# Altium schematic symbol library Analog_Switch.SchLib: 135 symbols (part 1 of 2)
Pins are listed as number, name and electrical type; pins without a type are passive.

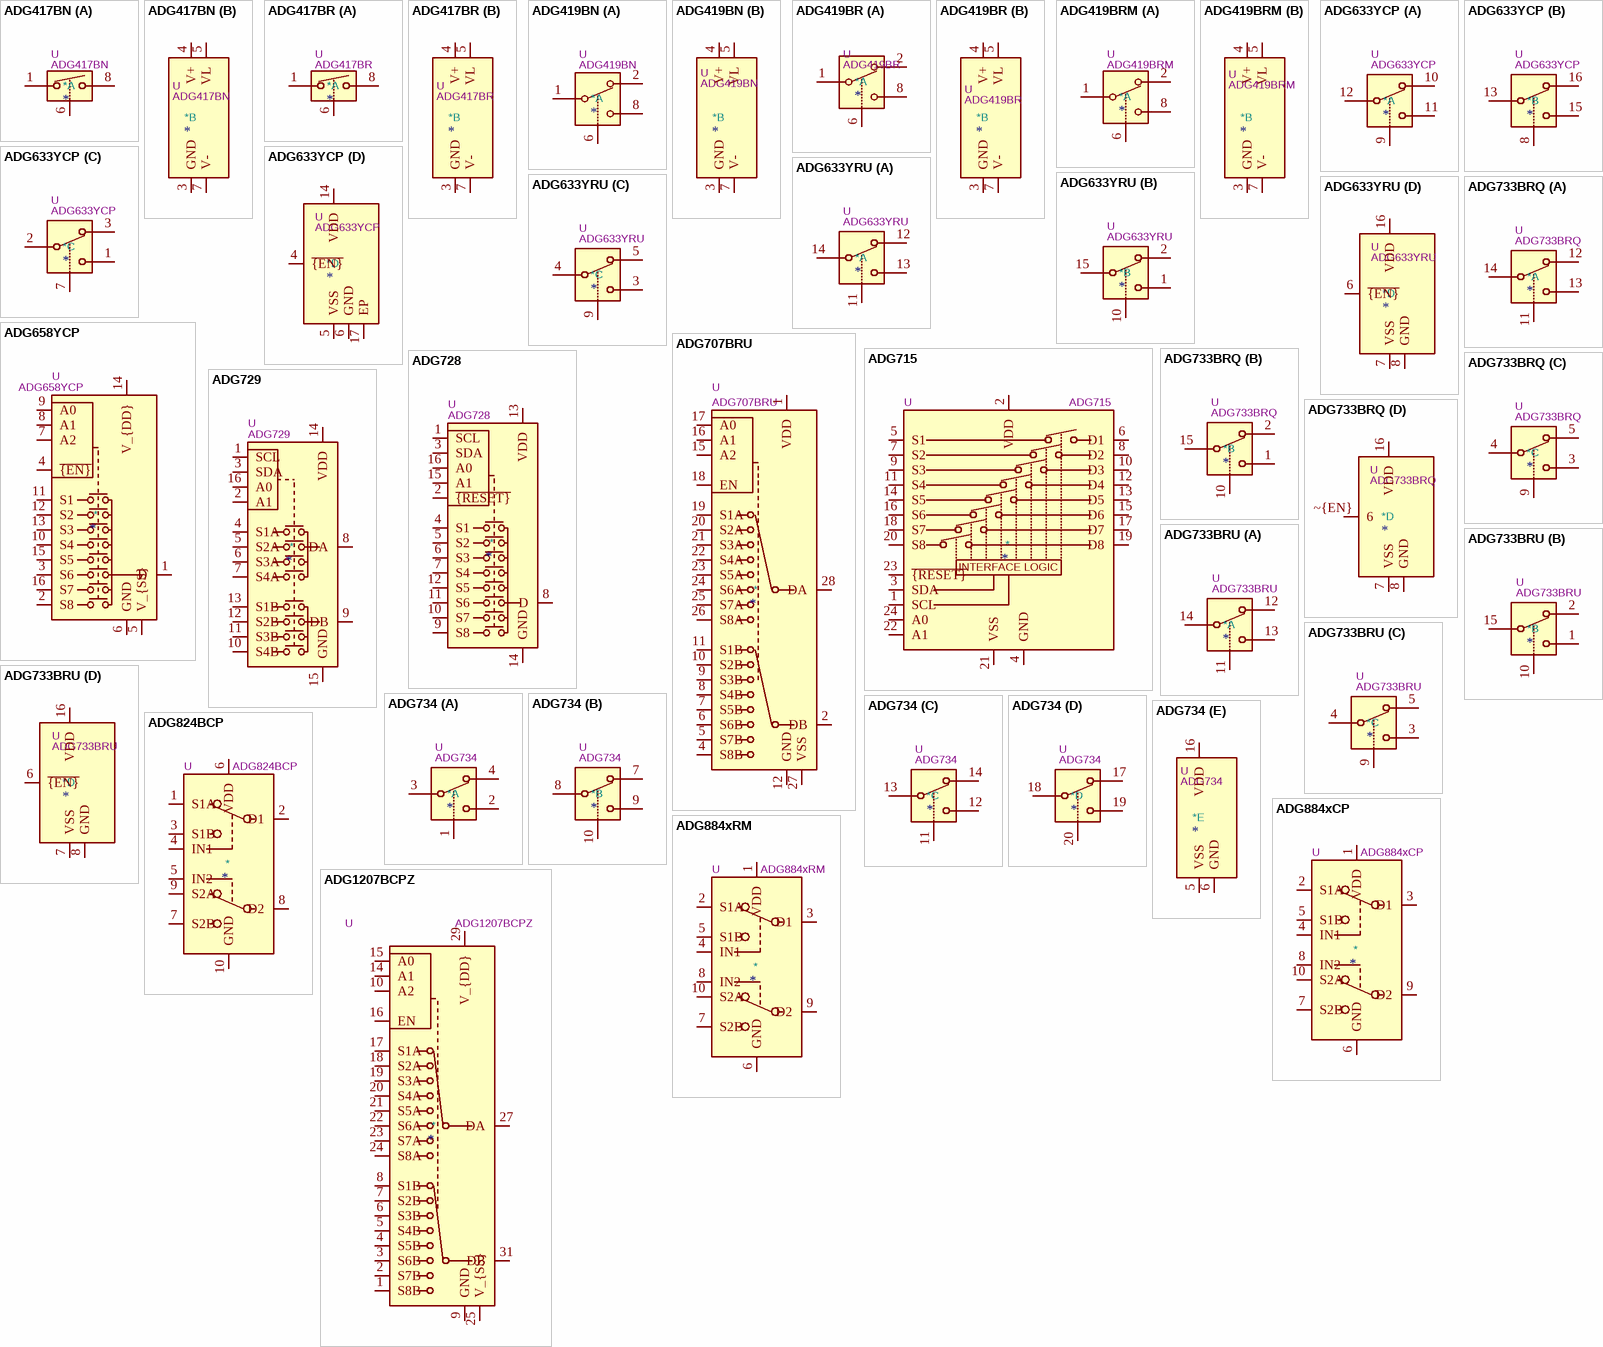
[diagram p0: symbols ADG417BN to ADG1207BCPZ]

## ADG417BN
designator *  value ADG417BN  Reference: U
ki_keywords: CMOS Analog Switch; ki_description: Single SPST Monolithic LC²MOS Analog Switch, normally OFF, 25Ohm Ron, DIP-8; ki_fp_filters: DIP*W7.62mm*; Footprint: Package_DIP:DIP-8_W7.62mm; Datasheet: https://www.analog.com/media/en/technical-documentation/data-sheets/ADG417.pdf
part A pins: 1, 6, 8
part B pins: 2 NC hidden, 3 GND, 4 V+, 5 VL, 7 V-

## ADG417BR
designator *  value ADG417BR  Reference: U
ki_keywords: CMOS Analog Switch; ki_description: Single SPST Monolithic LC²MOS Analog Switch, normally OFF, 25Ohm Ron, SOIC-8; ki_fp_filters: SOIC*3.9x4.9mm*P1.27mm*; Footprint: Package_SO:SOIC-8_3.9x4.9mm_P1.27mm; Datasheet: https://www.analog.com/media/en/technical-documentation/data-sheets/ADG417.pdf
part A pins: 1, 6, 8
part B pins: 2 NC hidden, 3 GND, 4 V+, 5 VL, 7 V-

## ADG419BN
designator *  value ADG419BN  Reference: U
ki_keywords: CMOS Analog Switch; ki_description: Single SPDT Monolithic LC²MOS Analog Switch, 25Ohm Ron, DIP-8; ki_fp_filters: DIP*W7.62mm*; Footprint: Package_DIP:DIP-8_W7.62mm; Datasheet: https://www.analog.com/media/en/technical-documentation/data-sheets/ADG419.pdf
part A pins: 1, 2, 6, 8
part B pins: 3 GND, 4 V+, 5 VL, 7 V-

## ADG419BR
designator *  value ADG419BR  Reference: U
ki_keywords: CMOS Analog Switch; ki_description: Single SPDT Monolithic LC²MOS Analog Switch, 25Ohm Ron, SOIC-8; ki_fp_filters: SOIC*3.9x4.9mm*P1.27mm*; Footprint: Package_SO:SOIC-8_3.9x4.9mm_P1.27mm; Datasheet: https://www.analog.com/media/en/technical-documentation/data-sheets/ADG419.pdf
part A pins: 1, 2, 6, 8
part B pins: 3 GND, 4 V+, 5 VL, 7 V-

## ADG419BRM
designator *  value ADG419BRM  Reference: U
ki_keywords: CMOS Analog Switch; ki_description: Single SPDT Monolithic LC²MOS Analog Switch, 25Ohm Ron, MSOP-8; ki_fp_filters: MSOP*3x3mm*P0.65mm*; Footprint: Package_SO:MSOP-8_3x3mm_P0.65mm; Datasheet: https://www.analog.com/media/en/technical-documentation/data-sheets/ADG419.pdf
part A pins: 1, 2, 6, 8
part B pins: 3 GND, 4 V+, 5 VL, 7 V-

## ADG633YCP
designator *  value ADG633YCP  Reference: U
ki_keywords: CMOS Analog Switch; ki_description: Triple SPDT CMOS Analog Switch, 52Ohm Ron, LFCSP-16; ki_fp_filters: LFCSP*1EP*4x4mm*P0.65mm*; Footprint: Package_CSP:LFCSP-16-1EP_4x4mm_P0.65mm_EP2.1x2.1mm; Datasheet: https://www.analog.com/media/en/technical-documentation/data-sheets/adg633.pdf
part A pins: 9, 10, 11, 12
part B pins: 8, 13, 15, 16
part C pins: 1, 2, 3, 7
part D pins: 4 ~{{EN}}, 5 VSS, 6 GND, 14 VDD, 17 EP

## ADG633YRU
designator *  value ADG633YRU  Reference: U
ki_keywords: CMOS Analog Switch; ki_description: Triple SPDT CMOS Analog Switch, 52Ohm Ron, TSSOP-16; ki_fp_filters: TSSOP*4.4x5mm*P0.65mm*; Footprint: Package_SO:TSSOP-16_4.4x5mm_P0.65mm; Datasheet: https://www.analog.com/media/en/technical-documentation/data-sheets/ADG633.pdf
part A pins: 11, 12, 13, 14
part B pins: 1, 2, 10, 15
part C pins: 3, 4, 5, 9
part D pins: 6 ~{{EN}}, 7 VSS, 8 GND, 16 VDD

## ADG658YCP
designator *  value ADG658YCP  Reference: U
ki_keywords: analog switch multiplexer SP8T; ki_description: 8-channel iCMOS analog multiplexer, 45 Ohm Ron, 210 MHz, LFCSP-16; ki_fp_filters: *LFCSP*1EP*4x4mm*P0.65mm*; Footprint: Package_CSP:Analog_LFCSP-16-1EP_4x4mm_P0.65mm_EP2.1x2.1mm; Datasheet: https://www.analog.com/media/en/technical-documentation/data-sheets/ADG658_659.pdf
pins: 1 D, 2 S8, 3 S6, 4 ~{{EN}}, 5 V_{SS}, 6 GND, 7 A2, 8 A1, 9 A0, 10 S4, 11 S1, 12 S2, 13 S3, 14 V_{DD}, 15 S5, 16 S7, 17 EPAD hidden

## ADG707BRU
designator *  value ADG707BRU  Reference: U
ki_keywords: analog switch selector differencial multiplexer; ki_description: Differential 8-to-1 Multiplexer, 2.5 Ohm Ron, 36Mhz, TSSOP-28; ki_fp_filters: TSSOP*4.4x9.7mm*P0.65mm*; Footprint: Package_SO:TSSOP-28_4.4x9.7mm_P0.65mm; Datasheet: https://www.analog.com/media/en/technical-documentation/data-sheets/ADG706_707.pdf
pins: 1 VDD, 2 DB, 3 NC hidden, 4 S8B, 5 S7B, 6 S6B, 7 S5B, 8 S4B, 9 S3B, 10 S2B, 11 S1B, 12 GND, 13 NC hidden, 14 NC hidden, 15 A2, 16 A1, 17 A0, 18 EN, 19 S1A, 20 S2A, 21 S3A, 22 S4A, 23 S5A, 24 S6A, 25 S7A, 26 S8A, 27 VSS, 28 DA

## ADG715
designator *  value ADG715  Reference: U
ki_keywords: CMOS, Switch, I2C; ki_description: CMOS, Low Voltage, Serially Controlled, Octal SPST Switch, I2C interface, TSSOP-24; ki_fp_filters: TSSOP*4.4x7.8mm*P0.65mm*; Footprint: Package_SO:TSSOP-24_4.4x7.8mm_P0.65mm; Datasheet: https://www.analog.com/media/en/technical-documentation/data-sheets/ADG714_715.pdf
pins: 1 SCL, 2 VDD, 3 SDA, 4 GND, 5 S1, 6 D1, 7 S2, 8 D2, 9 S3, 10 D3, 11 S4, 12 D4, 13 D5, 14 S5, 15 D6, 16 S6, 17 D7, 18 S7, 19 D8, 20 S8, 21 VSS, 22 A1, 23 ~{{RESET}}, 24 A0
text: INTERFACE LOGIC

## ADG728
designator *  value ADG728  Reference: U
ki_keywords: analog switch selector multiplexer TWI I2C IIC 8-to-1; ki_description: Single 8-to-1 CMOS Low Voltage 2-Wire Serially Controlled, Matrix Switches; ki_fp_filters: TSSOP*4.4x5mm*P0.65mm*; Footprint: Package_SO:TSSOP-16_4.4x5mm_P0.65mm; Datasheet: https://www.analog.com/media/en/technical-documentation/data-sheets/ADG728_729.pdf
pins: 1 SCL, 2 ~{{RESET}}, 3 SDA, 4 S1, 5 S2, 6 S3, 7 S4, 8 D, 9 S8, 10 S7, 11 S6, 12 S5, 13 VDD, 14 GND, 15 A1, 16 A0

## ADG729
designator *  value ADG729  Reference: U
ki_keywords: analog switch selector multiplexer TWI I2C IIC 4-to-1; ki_description: Dual 4-to-1 CMOS Low Voltage 2-Wire Serially Controlled, Matrix Switches; ki_fp_filters: TSSOP*4.4x5mm*P0.65mm*; Footprint: Package_SO:TSSOP-16_4.4x5mm_P0.65mm; Datasheet: https://www.analog.com/media/en/technical-documentation/data-sheets/ADG728_729.pdf
pins: 1 SCL, 2 A1, 3 SDA, 4 S1A, 5 S2A, 6 S3A, 7 S4A, 8 DA, 9 DB, 10 S4B, 11 S3B, 12 S2B, 13 S1B, 14 VDD, 15 GND, 16 A0

## ADG733BRQ
designator *  value ADG733BRQ  Reference: U
ki_keywords: CMOS Analog Switch; ki_description: Triple SPDT CMOS Analog Switch, 2.5Ohm Ron, QSOP-16; ki_fp_filters: QSOP*3.9x4.9mm*P0.635mm*; Footprint: Package_SO:QSOP-16_3.9x4.9mm_P0.635mm; Datasheet: https://www.analog.com/media/en/technical-documentation/data-sheets/ADG733_734.pdf
part A pins: 11, 12, 13, 14
part B pins: 1, 2, 10, 15
part C pins: 3, 4, 5, 9
part D pins: 7 VSS, 8 GND, 16 VDD, ~{EN} 6

## ADG733BRU
designator *  value ADG733BRU  Reference: U
ki_keywords: CMOS Analog Switch; ki_description: Triple SPDT CMOS Analog Switch, 2.5Ohm Ron, TSSOP-16; ki_fp_filters: TSSOP*4.4x5mm*P0.65mm*; Footprint: Package_SO:TSSOP-16_4.4x5mm_P0.65mm; Datasheet: https://www.analog.com/media/en/technical-documentation/data-sheets/ADG733_734.pdf
part A pins: 11, 12, 13, 14
part B pins: 1, 2, 10, 15
part C pins: 3, 4, 5, 9
part D pins: 6 ~{{EN}}, 7 VSS, 8 GND, 16 VDD

## ADG734
designator *  value ADG734  Reference: U
ki_keywords: CMOS Analog Switch; ki_description: Quad SPDT CMOS Analog Switch, 2.5Ohm Ron, TSSOP-20; ki_fp_filters: TSSOP*4.4x6.5mm*P0.65mm*; Footprint: Package_SO:TSSOP-20_4.4x6.5mm_P0.65mm; Datasheet: https://www.analog.com/media/en/technical-documentation/data-sheets/ADG733_734.pdf
part A pins: 1, 2, 3, 4
part B pins: 7, 8, 9, 10
part C pins: 11, 12, 13, 14
part D pins: 17, 18, 19, 20
part E pins: 5 VSS, 6 GND, 15 NC hidden, 16 VDD

## ADG824BCP
designator *  value ADG824BCP  Reference: U
ki_keywords: analog switch; ki_description: 0.5Ω CMOS 1.65V to 3.6V Dual SPDT/2:1 MUX, Mini LFCSP-10 Package 1.3x1.6mm; ki_fp_filters: Analog_LFCSP*1.3x1.6mm*P0.4mm*; Footprint: Package_CSP:Analog_LFCSP-UQ-10_1.3x1.6mm_P0.4mm; Datasheet: https://www.analog.com/media/en/technical-documentation/data-sheets/ADG884.pdf
pins: 1 S1A, 2 D1, 3 S1B, 4 IN1, 5 IN2, 6 VDD, 7 S2B, 8 D2, 9 S2A, 10 GND

## ADG884xCP
designator *  value ADG884xCP  Reference: U
ki_keywords: analog switch; ki_description: 0.5Ω CMOS, Dual 2:1 MUX/SPDT Audio Switch, LFCSP-WD-10; ki_fp_filters: LFCSP*1EP*3x3mm*P0.5mm*; Footprint: Package_CSP:LFCSP-WD-10-1EP_3x3mm_P0.5mm_EP1.64x2.38mm; Datasheet: https://www.analog.com/media/en/technical-documentation/data-sheets/ADG884.pdf
pins: 1 VDD, 2 S1A, 3 D1, 4 IN1, 5 S1B, 6 GND, 7 S2B, 8 IN2, 9 D2, 10 S2A, 11 GND hidden

## ADG884xRM
designator *  value ADG884xRM  Reference: U
ki_keywords: analog switch; ki_description: 0.5Ω CMOS, Dual 2:1 MUX/SPDT Audio Switch, MSOP-10; ki_fp_filters: MSOP*3x3mm*P0.5mm*; Footprint: Package_SO:MSOP-10_3x3mm_P0.5mm; Datasheet: https://www.analog.com/media/en/technical-documentation/data-sheets/ADG884.pdf
pins: 1 VDD, 2 S1A, 3 D1, 4 IN1, 5 S1B, 6 GND, 7 S2B, 8 IN2, 9 D2, 10 S2A

## ADG1207BCPZ
designator *  value ADG1207BCPZ  Reference: U
ki_keywords: analog switch multiplexer DP8T; ki_description: Differential 8-channel +/-5V, +12V, +5V, and +3.3V iCMOS analog multiplexer, 4.5 Ohm Ron, 37 MHz, LFCSP-32 5x5mm; ki_fp_filters: LFCSP?32*5x5mm*P0.5mm*; Footprint: Package_CSP:LFCSP-32-1EP_5x5mm_P0.5mm_EP3.1x3.1mm; Datasheet: https://www.analog.com/media/en/technical-documentation/data-sheets/ADG1206_1207.pdf
pins: 1 S8B, 2 S7B, 3 S6B, 4 S5B, 5 S4B, 6 S3B, 7 S2B, 8 S1B, 9 GND, 10 A2, 11 NC hidden, 12 NC hidden, 13 NC hidden, 14 A1, 15 A0, 16 EN, 17 S1A, 18 S2A, 19 S3A, 20 S4A, 21 S5A, 22 S6A, 23 S7A, 24 S8A, 25 V_{SS}, 26 NC hidden, 27 DA, 28 NC hidden, 29 V_{DD}, 30 NC hidden, 31 DB, 32 NC hidden, 33 V_{SS} hidden

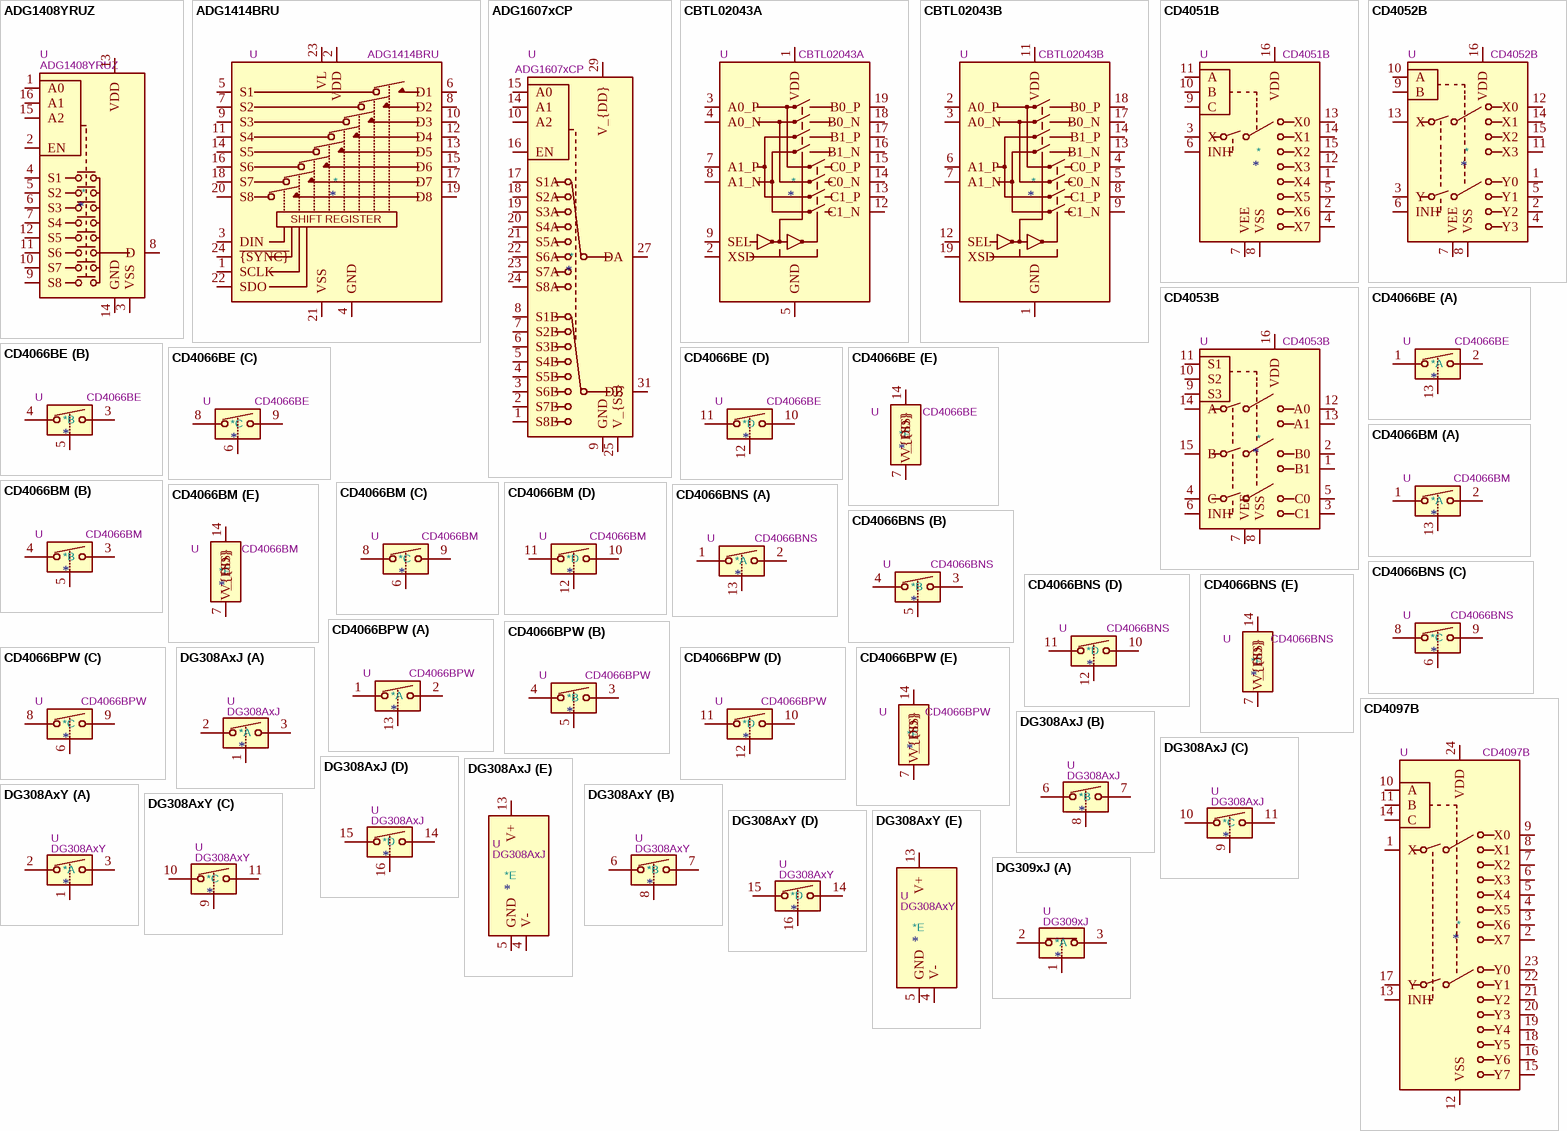
[diagram p1: symbols ADG1408YRUZ to DG309xJ]

## ADG1408YRUZ
designator *  value ADG1408YRUZ  Reference: U
ki_keywords: analog switch  multiplexer SP8T; ki_description: 8-channel iCMOS analog multiplexer, 4.7 Ohm Ron, 60 MHz, TSSOP-16; ki_fp_filters: TSSOP*4.4x5mm*P0.65mm*; Footprint: Package_SO:TSSOP-16_4.4x5mm_P0.65mm; Datasheet: https://www.analog.com/media/en/technical-documentation/data-sheets/ADG1408_1409.pdf
pins: 1 A0, 2 EN, 3 VSS, 4 S1, 5 S2, 6 S3, 7 S4, 8 D, 9 S8, 10 S7, 11 S6, 12 S5, 13 VDD, 14 GND, 15 A2, 16 A1

## ADG1414BRU
designator *  value ADG1414BRU  Reference: U
ki_keywords: SPI SPST Analog Switches; ki_description: ±15V, +12V, ±5V, 9.5 Ohm on resistance, iCMOS Serially-Controlled Octal SPST Switches, TSSOP-24; ki_fp_filters: TSSOP*4.4x7.8mm*P0.65mm*; Footprint: Package_SO:TSSOP-24_4.4x7.8mm_P0.65mm; Datasheet: https://www.analog.com/media/en/technical-documentation/data-sheets/ADG1414.pdf
pins: 1 SCLK, 2 VDD, 3 DIN, 4 GND, 5 S1, 6 D1, 7 S2, 8 D2, 9 S3, 10 D3, 11 S4, 12 D4, 13 D5, 14 S5, 15 D6, 16 S6, 17 D7, 18 S7, 19 D8, 20 S8, 21 VSS, 22 SDO, 23 VL, 24 ~{{SYNC}}
text: SHIFT REGISTER

## ADG1607xCP
designator *  value ADG1607xCP  Reference: U
ki_keywords: analog switch multiplexer DP8T; ki_description: Differential 8-channel +/-5V, +12V, +5V, and +3.3V iCMOS analog multiplexer, 4.5 Ohm Ron, 37 MHz, LFCSP-32 5x5mm; ki_fp_filters: LFCSP*1EP*5x5mm*P0.5mm*; Footprint: Package_CSP:LFCSP-32-1EP_5x5mm_P0.5mm_EP3.1x3.1mm; Datasheet: https://www.analog.com/media/en/technical-documentation/data-sheets/ADG1606_1607.pdf
pins: 1 S8B, 2 S7B, 3 S6B, 4 S5B, 5 S4B, 6 S3B, 7 S2B, 8 S1B, 9 GND, 10 A2, 11 NC hidden, 12 NC hidden, 13 NC hidden, 14 A1, 15 A0, 16 EN, 17 S1A, 18 S2A, 19 S3A, 20 S4A, 21 S5A, 22 S6A, 23 S7A, 24 S8A, 25 V_{SS}, 26 NC hidden, 27 DA, 28 NC hidden, 29 V_{DD}, 30 NC hidden, 31 DB, 32 NC hidden, 33 V_{SS} hidden

## CBTL02043A
designator *  value CBTL02043A  Reference: U
ki_keywords: Multiplexer Demultiplexer Switch Hi-Speed; ki_description: 3.3 V, 2 differential channel, 2:1 MUX/deMUX switch, 10 Gbps, WQFN-20; ki_fp_filters: WQFN*1EP*2.5x4.5mm*P0.5mm*; Footprint: Package_DFN_QFN:WQFN-20-1EP_2.5x4.5mm_P0.5mm_EP1x2.9mm; Datasheet: https://www.nxp.com/docs/en/data-sheet/CBTL02043A_CBTL02043B.pdf
pins: 1 VDD, 2 XSD, 3 A0_P, 4 A0_N, 5 GND, 6 VDD hidden, 7 A1_P, 8 A1_N, 9 SEL, 10 VDD hidden, 11 GND hidden, 12 C1_N, 13 C1_P, 14 C0_N, 15 C0_P, 16 B1_N, 17 B1_P, 18 B0_N, 19 B0_P, 20 GND hidden, 21 GND hidden

## CBTL02043B
designator *  value CBTL02043B  Reference: U
ki_keywords: Multiplexer Demultiplexer Switch Hi-Speed; ki_description: 3.3 V, 2 differential channel, 2:1 MUX/deMUX switch, 10 Gbps, WQFN-20; ki_fp_filters: WQFN*1EP*2.5x4.5mm*P0.5mm*; Footprint: Package_DFN_QFN:WQFN-20-1EP_2.5x4.5mm_P0.5mm_EP1x2.9mm; Datasheet: https://www.nxp.com/docs/en/data-sheet/CBTL02043A_CBTL02043B.pdf
pins: 1 GND, 2 A0_P, 3 A0_N, 4 C0_P, 5 C0_N, 6 A1_P, 7 A1_N, 8 C1_P, 9 C1_N, 10 GND hidden, 11 VDD, 12 SEL, 13 B1_N, 14 B1_P, 15 GND hidden, 16 VDD hidden, 17 B0_N, 18 B0_P, 19 XSD, 20 VDD hidden, 21 GND hidden

## CD4051B
designator *  value CD4051B  Reference: U
ki_keywords: analog switch selector multiplexer; ki_description: CMOS single 8-channel analog multiplexer demultiplexer, TSSOP-16/DIP-16/SOIC-16; ki_fp_filters: TSSOP*4.4x5mm*P0.65mm* DIP*W7.62* SOIC*3.9x9.9mm*P1.27mm* SO*5.3x10.2mm*P1.27mm*; Datasheet: http://www.ti.com/lit/ds/symlink/cd4052b.pdf
pins: 1 X4, 2 X6, 3 X, 4 X7, 5 X5, 6 INH, 7 VEE, 8 VSS, 9 C, 10 B, 11 A, 12 X3, 13 X0, 14 X1, 15 X2, 16 VDD

## CD4052B
designator *  value CD4052B  Reference: U
ki_keywords: analog switch selector multiplexer; ki_description: CMOS double 4-channel analog multiplexer/demultiplexer, TSSOP-16/DIP-16/SOIC-16; ki_fp_filters: TSSOP*4.4x5mm*P0.65mm* DIP*W7.62* SOIC*3.9x9.9mm*P1.27mm* SO*5.3x10.2mm*P1.27mm*; Datasheet: http://www.ti.com/lit/ds/symlink/cd4052b.pdf
pins: 1 Y0, 2 Y2, 3 Y, 4 Y3, 5 Y1, 6 INH, 7 VEE, 8 VSS, 9 B, 10 A, 11 X3, 12 X0, 13 X, 14 X1, 15 X2, 16 VDD

## CD4053B
designator *  value CD4053B  Reference: U
ki_keywords: analog switch selector multiplexer; ki_description: CMOS triple 2-channel analog multiplexer/demultiplexer, TSSOP-16/DIP-16/SOIC-16; ki_fp_filters: TSSOP*4.4x5mm*P0.65mm* DIP*W7.62* SOIC*3.9x9.9mm*P1.27mm* SO*5.3x10.2mm*P1.27mm*; Datasheet: http://www.ti.com/lit/ds/symlink/cd4052b.pdf
pins: 1 B1, 2 B0, 3 C1, 4 C, 5 C0, 6 INH, 7 VEE, 8 VSS, 9 S3, 10 S2, 11 S1, 12 A0, 13 A1, 14 A, 15 B, 16 VDD

## CD4066BE
designator *  value CD4066BE  Reference: U
ki_keywords: analog switch selector multiplexer spst mux amux; ki_description: Quad 20V analog SPST 1:1 switch, DIP-14; ki_fp_filters: DIP*W7.62*; Footprint: Package_DIP:DIP-14_W7.62mm; Datasheet: https://www.ti.com/lit/ds/symlink/cd4066b.pdf
part A pins: 1, 2, 13
part B pins: 3, 4, 5
part C pins: 6, 8, 9
part D pins: 10, 11, 12
part E pins: 7 V_{SS}, 14 V_{DD}

## CD4066BM
designator *  value CD4066BM  Reference: U
ki_keywords: analog switch selector multiplexer spst mux amux; ki_description: Quad 20V analog SPST 1:1 switch, SO-14 (3.9x8.65mm); ki_fp_filters: SO*3.9x8.65mm*P1.27mm*; Footprint: Package_SO:SO-14_3.9x8.65mm_P1.27mm; Datasheet: https://www.ti.com/lit/ds/symlink/cd4066b.pdf
part A pins: 1, 2, 13
part B pins: 3, 4, 5
part C pins: 6, 8, 9
part D pins: 10, 11, 12
part E pins: 7 V_{SS}, 14 V_{DD}

## CD4066BNS
designator *  value CD4066BNS  Reference: U
ki_keywords: analog switch selector multiplexer spst mux amux; ki_description: Quad 20V analog SPST 1:1 switch, SO-14 (5.3x10.2mm); ki_fp_filters: SO*5.3x10.2mm*P1.27mm*; Footprint: Package_SO:SO-14_5.3x10.2mm_P1.27mm; Datasheet: https://www.ti.com/lit/ds/symlink/cd4066b.pdf
part A pins: 1, 2, 13
part B pins: 3, 4, 5
part C pins: 6, 8, 9
part D pins: 10, 11, 12
part E pins: 7 V_{SS}, 14 V_{DD}

## CD4066BPW
designator *  value CD4066BPW  Reference: U
ki_keywords: analog switch selector multiplexer spst mux amux; ki_description: Quad 20V analog SPST 1:1 switch, TSSOP-14; ki_fp_filters: TSSOP*4.4x5mm*P0.65mm*; Footprint: Package_SO:TSSOP-14_4.4x5mm_P0.65mm; Datasheet: https://www.ti.com/lit/ds/symlink/cd4066b.pdf
part A pins: 1, 2, 13
part B pins: 3, 4, 5
part C pins: 6, 8, 9
part D pins: 10, 11, 12
part E pins: 7 V_{SS}, 14 V_{DD}

## CD4097B
designator *  value CD4097B  Reference: U
ki_keywords: analog switch selector multiplexer; ki_description: CMOS double 8-channel analog multiplexer/demultiplexer, TSSOP-24/DIP-24/SOIC-24; ki_fp_filters: TSSOP*4.4x7.8mm*P0.65mm* SOIC*7.5*15.4*1.27mm* SO*5.3x15.0mm*P1.27mm* DIP*15.24mm*; Datasheet: http://www.ti.com/lit/ds/symlink/cd4097b.pdf
pins: 1 X, 2 X7, 3 X6, 4 X5, 5 X4, 6 X3, 7 X2, 8 X1, 9 X0, 10 A, 11 B, 12 VSS, 13 INH, 14 C, 15 Y7, 16 Y6, 17 Y, 18 Y5, 19 Y4, 20 Y3, 21 Y2, 22 Y1, 23 Y0, 24 VDD

## DG308AxJ
designator *  value DG308AxJ  Reference: U
ki_keywords: CMOS Analog Switch; ki_description: Quad SPST Analog Switches, normally OFF, 60Ohm Ron, DIP-16; ki_fp_filters: DIP*W7.62mm*; Footprint: Package_DIP:DIP-16_W7.62mm; Datasheet: http://pdf.datasheetcatalog.com/datasheets/70/494502_DS.pdf
part A pins: 1, 2, 3
part B pins: 6, 7, 8
part C pins: 9, 10, 11
part D pins: 14, 15, 16
part E pins: 4 V-, 5 GND, 12 NC hidden, 13 V+

## DG308AxY
designator *  value DG308AxY  Reference: U
ki_keywords: CMOS Analog Switch; ki_description: Quad SPST Analog Switches, normally OFF, 60Ohm Ron, SOIC-16; ki_fp_filters: SOIC*3.9x9.9mm*P1.27mm*; Footprint: Package_SO:SOIC-16_3.9x9.9mm_P1.27mm; Datasheet: http://pdf.datasheetcatalog.com/datasheets/70/494502_DS.pdf
part A pins: 1, 2, 3
part B pins: 6, 7, 8
part C pins: 9, 10, 11
part D pins: 14, 15, 16
part E pins: 4 V-, 5 GND, 12 NC hidden, 13 V+

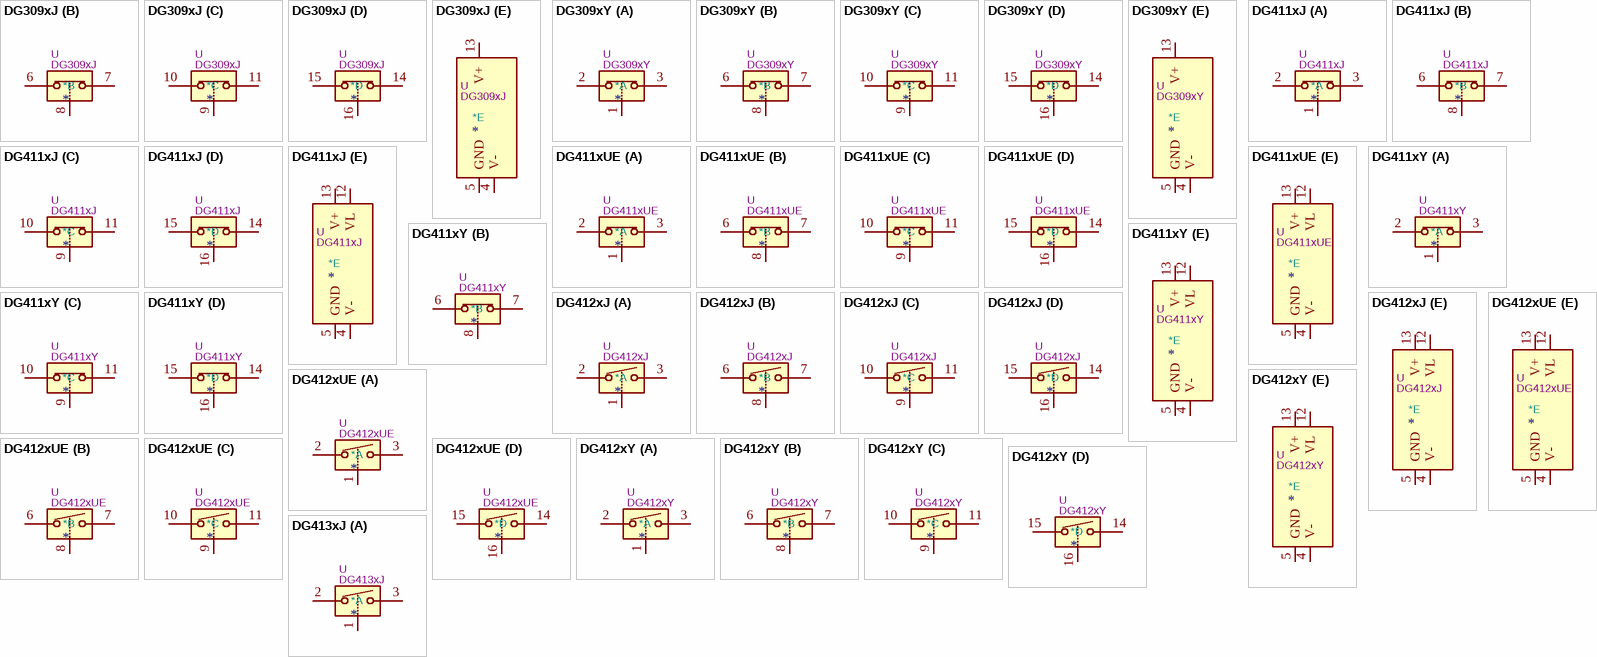
[diagram p2: symbols DG309xJ to DG413xJ]

## DG309xJ
designator *  value DG309xJ  Reference: U
ki_keywords: CMOS Analog Switch; ki_description: Quad SPST Analog Switches, normally ON, 60Ohm Ron, DIP-16; ki_fp_filters: DIP*W7.62mm*; Footprint: Package_DIP:DIP-16_W7.62mm; Datasheet: http://pdf.datasheetcatalog.com/datasheets/70/494502_DS.pdf
part A pins: 1, 2, 3
part B pins: 6, 7, 8
part C pins: 9, 10, 11
part D pins: 14, 15, 16
part E pins: 4 V-, 5 GND, 12 NC hidden, 13 V+

## DG309xY
designator *  value DG309xY  Reference: U
ki_keywords: CMOS Analog Switch; ki_description: Quad SPST Analog Switches, normally ON, 60Ohm Ron, SOIC-16; ki_fp_filters: SOIC*3.9x9.9mm*P1.27mm*; Footprint: Package_SO:SOIC-16_3.9x9.9mm_P1.27mm; Datasheet: http://pdf.datasheetcatalog.com/datasheets/70/494502_DS.pdf
part A pins: 1, 2, 3
part B pins: 6, 7, 8
part C pins: 9, 10, 11
part D pins: 14, 15, 16
part E pins: 4 V-, 5 GND, 12 NC hidden, 13 V+

## DG411xJ
designator *  value DG411xJ  Reference: U
ki_keywords: CMOS Analog Switch; ki_description: Quad SPST Monolithic CMOS Analog Switches, normally ON, 17Ohm Ron, DIP-16; ki_fp_filters: DIP*W7.62mm*; Footprint: Package_DIP:DIP-16_W7.62mm; Datasheet: https://datasheets.maximintegrated.com/en/ds/DG411-DG413.pdf
part A pins: 1, 2, 3
part B pins: 6, 7, 8
part C pins: 9, 10, 11
part D pins: 14, 15, 16
part E pins: 4 V-, 5 GND, 12 VL, 13 V+

## DG411xUE
designator *  value DG411xUE  Reference: U
ki_keywords: CMOS Analog Switch; ki_description: Quad SPST Monolithic CMOS Analog Switches, normally ON, 17Ohm Ron, TSSOP-16; ki_fp_filters: TSSOP*4.4x5mm*P0.65mm*; Footprint: Package_SO:TSSOP-16_4.4x5mm_P0.65mm; Datasheet: https://datasheets.maximintegrated.com/en/ds/DG411-DG413.pdf
part A pins: 1, 2, 3
part B pins: 6, 7, 8
part C pins: 9, 10, 11
part D pins: 14, 15, 16
part E pins: 4 V-, 5 GND, 12 VL, 13 V+

## DG411xY
designator *  value DG411xY  Reference: U
ki_keywords: CMOS Analog Switch; ki_description: Quad SPST Monolithic CMOS Analog Switches, normally ON, 17Ohm Ron, SOIC-16; ki_fp_filters: SOIC*3.9x9.9mm*P1.27mm*; Footprint: Package_SO:SOIC-16_3.9x9.9mm_P1.27mm; Datasheet: https://datasheets.maximintegrated.com/en/ds/DG411-DG413.pdf
part A pins: 1, 2, 3
part B pins: 6, 7, 8
part C pins: 9, 10, 11
part D pins: 14, 15, 16
part E pins: 4 V-, 5 GND, 12 VL, 13 V+

## DG412xJ
designator *  value DG412xJ  Reference: U
ki_keywords: CMOS Analog Switch; ki_description: Quad SPST Monolithic CMOS Analog Switches, normally OFF, 17Ohm Ron, DIP-16; ki_fp_filters: DIP*W7.62mm*; Footprint: Package_DIP:DIP-16_W7.62mm; Datasheet: https://datasheets.maximintegrated.com/en/ds/DG411-DG413.pdf
part A pins: 1, 2, 3
part B pins: 6, 7, 8
part C pins: 9, 10, 11
part D pins: 14, 15, 16
part E pins: 4 V-, 5 GND, 12 VL, 13 V+

## DG412xUE
designator *  value DG412xUE  Reference: U
ki_keywords: CMOS Analog Switch; ki_description: Quad SPST Monolithic CMOS Analog Switches, normally OFF, 17Ohm Ron, TSSOP-16; ki_fp_filters: TSSOP*4.4x5mm*P0.65mm*; Footprint: Package_SO:TSSOP-16_4.4x5mm_P0.65mm; Datasheet: https://datasheets.maximintegrated.com/en/ds/DG411-DG413.pdf
part A pins: 1, 2, 3
part B pins: 6, 7, 8
part C pins: 9, 10, 11
part D pins: 14, 15, 16
part E pins: 4 V-, 5 GND, 12 VL, 13 V+

## DG412xY
designator *  value DG412xY  Reference: U
ki_keywords: CMOS Analog Switch; ki_description: Quad SPST Monolithic CMOS Analog Switches, normally OFF, 17Ohm Ron, SOIC-16; ki_fp_filters: SOIC*3.9x9.9mm*P1.27mm*; Footprint: Package_SO:SOIC-16_3.9x9.9mm_P1.27mm; Datasheet: https://datasheets.maximintegrated.com/en/ds/DG411-DG413.pdf
part A pins: 1, 2, 3
part B pins: 6, 7, 8
part C pins: 9, 10, 11
part D pins: 14, 15, 16
part E pins: 4 V-, 5 GND, 12 VL, 13 V+

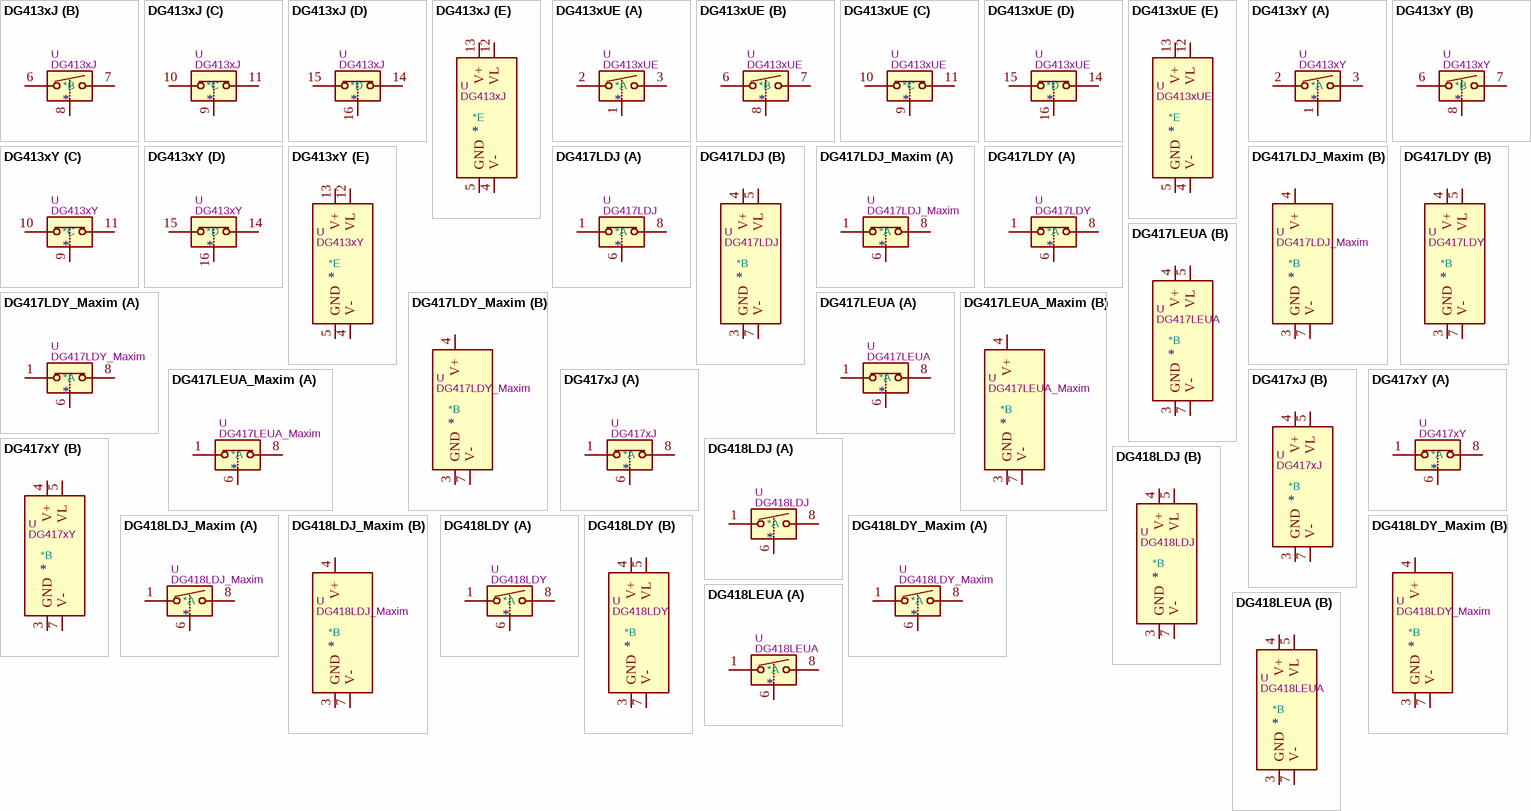
[diagram p3: symbols DG413xJ to DG418LEUA]

## DG413xJ
designator *  value DG413xJ  Reference: U
ki_keywords: CMOS Analog Switch; ki_description: Quad SPST Monolithic CMOS Analog Switches, normally 2xON + 2xOFF, 17Ohm Ron, DIP-16; ki_fp_filters: DIP*W7.62mm*; Footprint: Package_DIP:DIP-16_W7.62mm; Datasheet: https://datasheets.maximintegrated.com/en/ds/DG411-DG413.pdf
part A pins: 1, 2, 3
part B pins: 6, 7, 8
part C pins: 9, 10, 11
part D pins: 14, 15, 16
part E pins: 4 V-, 5 GND, 12 VL, 13 V+

## DG413xUE
designator *  value DG413xUE  Reference: U
ki_keywords: CMOS Analog Switch; ki_description: Quad SPST Monolithic CMOS Analog Switches, normally 2xON + 2xOFF, 17Ohm Ron, TSSOP-16; ki_fp_filters: TSSOP*4.4x5mm*P0.65mm*; Footprint: Package_SO:TSSOP-16_4.4x5mm_P0.65mm; Datasheet: https://datasheets.maximintegrated.com/en/ds/DG411-DG413.pdf
part A pins: 1, 2, 3
part B pins: 6, 7, 8
part C pins: 9, 10, 11
part D pins: 14, 15, 16
part E pins: 4 V-, 5 GND, 12 VL, 13 V+

## DG413xY
designator *  value DG413xY  Reference: U
ki_keywords: CMOS Analog Switch; ki_description: Quad SPST Monolithic CMOS Analog Switches, normally 2xON + 2xOFF, 17Ohm Ron, SOIC-16; ki_fp_filters: SOIC*3.9x9.9mm*P1.27mm*; Footprint: Package_SO:SOIC-16_3.9x9.9mm_P1.27mm; Datasheet: https://datasheets.maximintegrated.com/en/ds/DG411-DG413.pdf
part A pins: 1, 2, 3
part B pins: 6, 7, 8
part C pins: 9, 10, 11
part D pins: 14, 15, 16
part E pins: 4 V-, 5 GND, 12 VL, 13 V+

## DG417LDJ
designator *  value DG417LDJ  Reference: U
ki_keywords: CMOS Analog Switch; ki_description: Single SPST 3V Logic Compatible CMOS Analog Switch, normally ON, 35Ohm Ron, with Vlogic, DIP-8; ki_fp_filters: DIP*W7.62mm*; Footprint: Package_DIP:DIP-8_W7.62mm; Datasheet: https://datasheets.maximintegrated.com/en/ds/DG417L-DG419L.pdf
part A pins: 1, 6, 8
part B pins: 2 NC hidden, 3 GND, 4 V+, 5 VL, 7 V-

## DG417LDJ_Maxim
designator *  value DG417LDJ_Maxim  Reference: U
ki_keywords: CMOS Analog Switch; ki_description: Single SPST 3V Logic Compatible CMOS Analog Switch, normally ON, 35Ohm Ron, Maxim-variant without Vlogic, DIP-8; ki_fp_filters: DIP*W7.62mm*; Footprint: Package_DIP:DIP-8_W7.62mm; Datasheet: https://datasheets.maximintegrated.com/en/ds/DG417L-DG419L.pdf
part A pins: 1, 6, 8
part B pins: 2 NC hidden, 3 GND, 4 V+, 5 NC hidden, 7 V-

## DG417LDY
designator *  value DG417LDY  Reference: U
ki_keywords: CMOS Analog Switch; ki_description: Single SPST 3V Logic Compatible CMOS Analog Switch, normally ON, 20Ohm Ron, with Vlogic, SOIC-8; ki_fp_filters: SOIC*3.9x4.9mm*P1.27mm*; Footprint: Package_SO:SOIC-8_3.9x4.9mm_P1.27mm; Datasheet: https://datasheets.maximintegrated.com/en/ds/DG417-DG419.pdf
part A pins: 1, 6, 8
part B pins: 2 NC hidden, 3 GND, 4 V+, 5 VL, 7 V-

## DG417LDY_Maxim
designator *  value DG417LDY_Maxim  Reference: U
ki_keywords: CMOS Analog Switch; ki_description: Single SPST 3V Logic Compatible CMOS Analog Switch, normally ON, 20Ohm Ron, Maxim-variant without Vlogic, SOIC-8; ki_fp_filters: SOIC*3.9x4.9mm*P1.27mm*; Footprint: Package_SO:SOIC-8_3.9x4.9mm_P1.27mm; Datasheet: https://datasheets.maximintegrated.com/en/ds/DG417-DG419.pdf
part A pins: 1, 6, 8
part B pins: 2 NC hidden, 3 GND, 4 V+, 5 NC hidden, 7 V-

## DG417LEUA
designator *  value DG417LEUA  Reference: U
ki_keywords: CMOS Analog Switch; ki_description: Single SPST 3V Logic Compatible CMOS Analog Switch, normally ON, 20Ohm Ron, with Vlogic, MSOP-8; ki_fp_filters: MSOP*3x3mm*P0.65mm*; Footprint: Package_SO:MSOP-8_3x3mm_P0.65mm; Datasheet: https://datasheets.maximintegrated.com/en/ds/DG417-DG419.pdf
part A pins: 1, 6, 8
part B pins: 2 NC hidden, 3 GND, 4 V+, 5 VL, 7 V-

## DG417LEUA_Maxim
designator *  value DG417LEUA_Maxim  Reference: U
ki_keywords: CMOS Analog Switch; ki_description: Single SPST 3V Logic Compatible CMOS Analog Switch, normally ON, 20Ohm Ron, Maxim-variant without Vlogic, MSOP-8; ki_fp_filters: MSOP*3x3mm*P0.65mm*; Footprint: Package_SO:MSOP-8_3x3mm_P0.65mm; Datasheet: https://datasheets.maximintegrated.com/en/ds/DG417-DG419.pdf
part A pins: 1, 6, 8
part B pins: 2 NC hidden, 3 GND, 4 V+, 5 NC hidden, 7 V-

## DG417xJ
designator *  value DG417xJ  Reference: U
ki_keywords: CMOS Analog Switch; ki_description: Single SPST Monolithic CMOS Analog Switch, normally ON, 20Ohm Ron, DIP-8; ki_fp_filters: DIP*W7.62mm*; Footprint: Package_DIP:DIP-8_W7.62mm; Datasheet: https://datasheets.maximintegrated.com/en/ds/DG417-DG419.pdf
part A pins: 1, 6, 8
part B pins: 2 NC hidden, 3 GND, 4 V+, 5 VL, 7 V-

## DG417xY
designator *  value DG417xY  Reference: U
ki_keywords: CMOS Analog Switch; ki_description: Single SPST Monolithic CMOS Analog Switch, normally ON, 20Ohm Ron, SOIC-8; ki_fp_filters: SOIC*3.9x4.9mm*P1.27mm*; Footprint: Package_SO:SOIC-8_3.9x4.9mm_P1.27mm; Datasheet: https://datasheets.maximintegrated.com/en/ds/DG417-DG419.pdf
part A pins: 1, 6, 8
part B pins: 2 NC hidden, 3 GND, 4 V+, 5 VL, 7 V-

## DG418LDJ
designator *  value DG418LDJ  Reference: U
ki_keywords: CMOS Analog Switch; ki_description: Single SPST 3V Logic Compatible CMOS Analog Switch, normally OFF, 35Ohm Ron, with Vlogic, DIP-8; ki_fp_filters: DIP*W7.62mm*; Footprint: Package_DIP:DIP-8_W7.62mm; Datasheet: https://datasheets.maximintegrated.com/en/ds/DG417-DG419.pdf
part A pins: 1, 6, 8
part B pins: 2 NC hidden, 3 GND, 4 V+, 5 VL, 7 V-

## DG418LDJ_Maxim
designator *  value DG418LDJ_Maxim  Reference: U
ki_keywords: CMOS Analog Switch; ki_description: Single SPST 3V Logic Compatible CMOS Analog Switch, normally OFF, 35Ohm Ron, Maxim-variant without Vlogic, DIP-8; ki_fp_filters: DIP*W7.62mm*; Footprint: Package_DIP:DIP-8_W7.62mm; Datasheet: https://datasheets.maximintegrated.com/en/ds/DG417-DG419.pdf
part A pins: 1, 6, 8
part B pins: 2 NC hidden, 3 GND, 4 V+, 5 NC hidden, 7 V-

## DG418LDY
designator *  value DG418LDY  Reference: U
ki_keywords: CMOS Analog Switch; ki_description: Single SPST 3V Logic Compatible CMOS Analog Switch, normally OFF, 35Ohm Ron, with Vlogic, SOIC-8; ki_fp_filters: SOIC*3.9x4.9mm*P1.27mm*; Footprint: Package_SO:SOIC-8_3.9x4.9mm_P1.27mm; Datasheet: https://datasheets.maximintegrated.com/en/ds/DG417-DG419.pdf
part A pins: 1, 6, 8
part B pins: 2 NC hidden, 3 GND, 4 V+, 5 VL, 7 V-

## DG418LDY_Maxim
designator *  value DG418LDY_Maxim  Reference: U
ki_keywords: CMOS Analog Switch; ki_description: Single SPST 3V Logic Compatible CMOS Analog Switch, normally OFF, 35Ohm Ron, Maxim-variant without Vlogic, SOIC-8; ki_fp_filters: SOIC*3.9x4.9mm*P1.27mm*; Footprint: Package_SO:SOIC-8_3.9x4.9mm_P1.27mm; Datasheet: https://datasheets.maximintegrated.com/en/ds/DG417-DG419.pdf
part A pins: 1, 6, 8
part B pins: 2 NC hidden, 3 GND, 4 V+, 5 NC hidden, 7 V-

## DG418LEUA
designator *  value DG418LEUA  Reference: U
ki_keywords: CMOS Analog Switch; ki_description: Single SPST 3V Logic Compatible CMOS Analog Switch, normally OFF, 35Ohm Ron, with Vlogic, MSOP-8; ki_fp_filters: MSOP*3x3mm*P0.65mm*; Footprint: Package_SO:MSOP-8_3x3mm_P0.65mm; Datasheet: https://datasheets.maximintegrated.com/en/ds/DG417-DG419.pdf
part A pins: 1, 6, 8
part B pins: 2 NC hidden, 3 GND, 4 V+, 5 VL, 7 V-

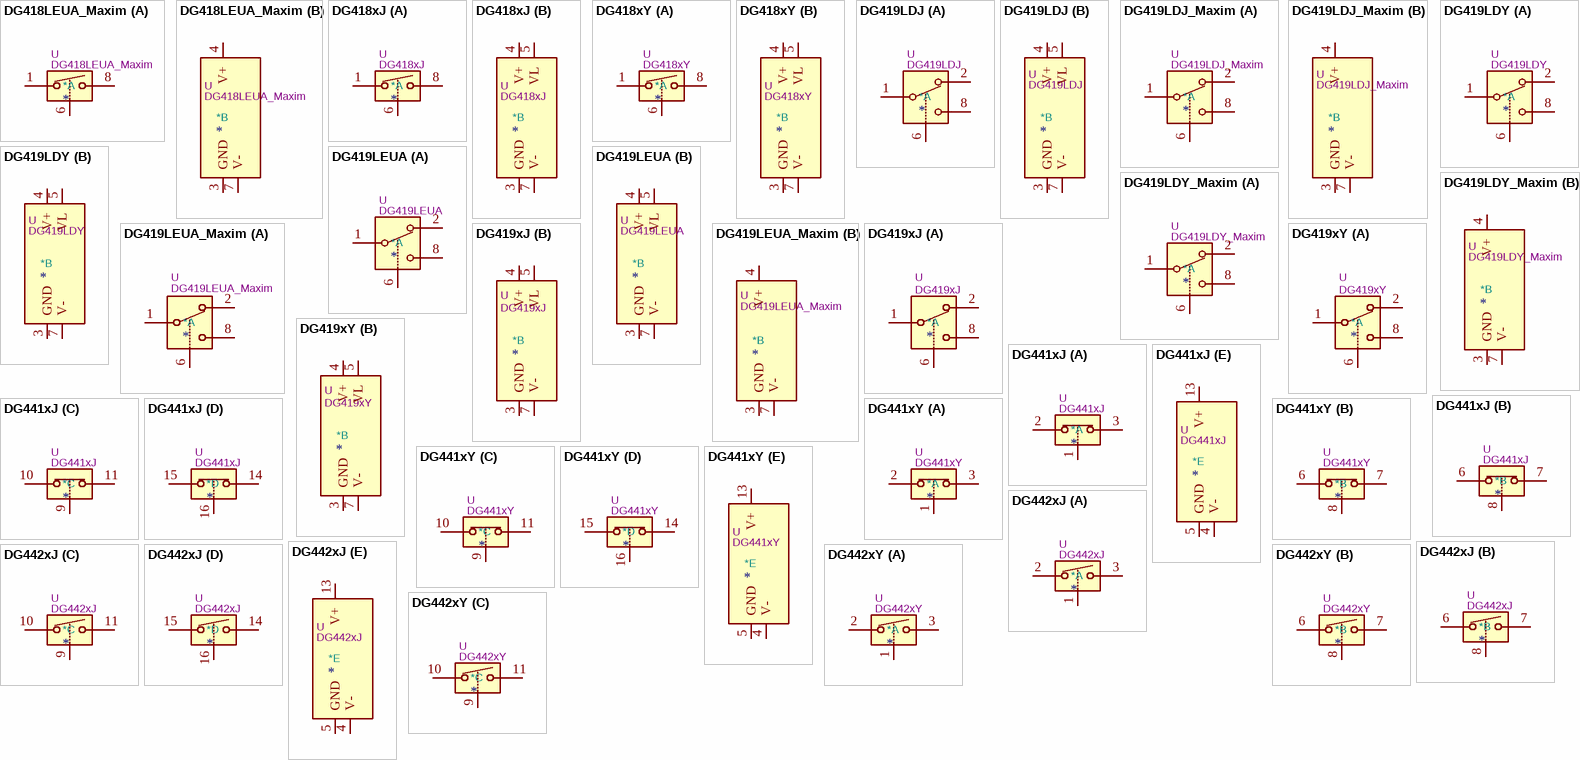
[diagram p4: symbols DG418LEUA_Maxim to DG442xY]

## DG418LEUA_Maxim
designator *  value DG418LEUA_Maxim  Reference: U
ki_keywords: CMOS Analog Switch; ki_description: Single SPST 3V Logic Compatible CMOS Analog Switch, normally OFF, 35Ohm Ron, Maxim-variant without Vlogic, MSOP-8; ki_fp_filters: MSOP*3x3mm*P0.65mm*; Footprint: Package_SO:MSOP-8_3x3mm_P0.65mm; Datasheet: https://datasheets.maximintegrated.com/en/ds/DG417-DG419.pdf
part A pins: 1, 6, 8
part B pins: 2 NC hidden, 3 GND, 4 V+, 5 NC hidden, 7 V-

## DG418xJ
designator *  value DG418xJ  Reference: U
ki_keywords: CMOS Analog Switch; ki_description: Single SPST Monolithic CMOS Analog Switch, normally OFF, 20Ohm Ron, DIP-8; ki_fp_filters: DIP*W7.62mm*; Footprint: Package_DIP:DIP-8_W7.62mm; Datasheet: https://datasheets.maximintegrated.com/en/ds/DG417-DG419.pdf
part A pins: 1, 6, 8
part B pins: 2 NC hidden, 3 GND, 4 V+, 5 VL, 7 V-

## DG418xY
designator *  value DG418xY  Reference: U
ki_keywords: CMOS Analog Switch; ki_description: Single SPST Monolithic CMOS Analog Switch, normally OFF, 20Ohm Ron, SOIC-8; ki_fp_filters: SOIC*3.9x4.9mm*P1.27mm*; Footprint: Package_SO:SOIC-8_3.9x4.9mm_P1.27mm; Datasheet: https://datasheets.maximintegrated.com/en/ds/DG417-DG419.pdf
part A pins: 1, 6, 8
part B pins: 2 NC hidden, 3 GND, 4 V+, 5 VL, 7 V-

## DG419LDJ
designator *  value DG419LDJ  Reference: U
ki_keywords: CMOS Analog Switch; ki_description: Single SPDT 3V Logic Compatible CMOS Analog Switch, 35Ohm Ron, with Vlogic, DIP-8; ki_fp_filters: DIP*W7.62mm*; Footprint: Package_DIP:DIP-8_W7.62mm; Datasheet: https://datasheets.maximintegrated.com/en/ds/DG417-DG419.pdf
part A pins: 1, 2, 6, 8
part B pins: 3 GND, 4 V+, 5 VL, 7 V-

## DG419LDJ_Maxim
designator *  value DG419LDJ_Maxim  Reference: U
ki_keywords: CMOS Analog Switch; ki_description: Single SPDT 3V Logic Compatible CMOS Analog Switch, 35Ohm Ron, Maxim-variant without Vlogic, DIP-8; ki_fp_filters: DIP*W7.62mm*; Footprint: Package_DIP:DIP-8_W7.62mm; Datasheet: https://datasheets.maximintegrated.com/en/ds/DG417-DG419.pdf
part A pins: 1, 2, 6, 8
part B pins: 3 GND, 4 V+, 5 NC hidden, 7 V-

## DG419LDY
designator *  value DG419LDY  Reference: U
ki_keywords: CMOS Analog Switch; ki_description: Single SPDT 3V Logic Compatible CMOS Analog Switch, 35Ohm Ron, with Vlogic, SOIC-8; ki_fp_filters: SOIC*3.9x4.9mm*P1.27mm*; Footprint: Package_SO:SOIC-8_3.9x4.9mm_P1.27mm; Datasheet: https://datasheets.maximintegrated.com/en/ds/DG417-DG419.pdf
part A pins: 1, 2, 6, 8
part B pins: 3 GND, 4 V+, 5 VL, 7 V-

## DG419LDY_Maxim
designator *  value DG419LDY_Maxim  Reference: U
ki_keywords: CMOS Analog Switch; ki_description: Single SPDT 3V Logic Compatible CMOS Analog Switch, 35Ohm Ron, Maxim-variant without Vlogic, SOIC-8; ki_fp_filters: SOIC*3.9x4.9mm*P1.27mm*; Footprint: Package_SO:SOIC-8_3.9x4.9mm_P1.27mm; Datasheet: https://datasheets.maximintegrated.com/en/ds/DG417-DG419.pdf
part A pins: 1, 2, 6, 8
part B pins: 3 GND, 4 V+, 5 NC hidden, 7 V-

## DG419LEUA
designator *  value DG419LEUA  Reference: U
ki_keywords: CMOS Analog Switch; ki_description: Single SPDT 3V Logic Compatible CMOS Analog Switch, 35Ohm Ron, with Vlogic, MSOP-8; ki_fp_filters: MSOP*3x3mm*P0.65mm*; Footprint: Package_SO:MSOP-8_3x3mm_P0.65mm; Datasheet: https://datasheets.maximintegrated.com/en/ds/DG417-DG419.pdf
part A pins: 1, 2, 6, 8
part B pins: 3 GND, 4 V+, 5 VL, 7 V-

## DG419LEUA_Maxim
designator *  value DG419LEUA_Maxim  Reference: U
ki_keywords: CMOS Analog Switch; ki_description: Single SPDT 3V Logic Compatible CMOS Analog Switch, 35Ohm Ron, Maxim-variant without Vlogic, MSOP-8; ki_fp_filters: MSOP*3x3mm*P0.65mm*; Footprint: Package_SO:MSOP-8_3x3mm_P0.65mm; Datasheet: https://datasheets.maximintegrated.com/en/ds/DG417-DG419.pdf
part A pins: 1, 2, 6, 8
part B pins: 3 GND, 4 V+, 5 NC hidden, 7 V-

## DG419xJ
designator *  value DG419xJ  Reference: U
ki_keywords: CMOS Analog Switch; ki_description: Single SPDT Monolithic CMOS Analog Switch, 20Ohm Ron, DIP-8; ki_fp_filters: DIP*W7.62mm*; Footprint: Package_DIP:DIP-8_W7.62mm; Datasheet: https://datasheets.maximintegrated.com/en/ds/DG417-DG419.pdf
part A pins: 1, 2, 6, 8
part B pins: 3 GND, 4 V+, 5 VL, 7 V-

## DG419xY
designator *  value DG419xY  Reference: U
ki_keywords: CMOS Analog Switch; ki_description: Single SPDT Monolithic CMOS Analog Switch, 20Ohm Ron, SOIC-8; ki_fp_filters: SOIC*3.9x4.9mm*P1.27mm*; Footprint: Package_SO:SOIC-8_3.9x4.9mm_P1.27mm; Datasheet: https://datasheets.maximintegrated.com/en/ds/DG417-DG419.pdf
part A pins: 1, 2, 6, 8
part B pins: 3 GND, 4 V+, 5 VL, 7 V-

## DG441xJ
designator *  value DG441xJ  Reference: U
ki_keywords: CMOS Analog Switch; ki_description: Quad SPST Analog Switches, normally ON, 60Ohm Ron, DIP-16; ki_fp_filters: DIP*W7.62mm*; Footprint: Package_DIP:DIP-16_W7.62mm; Datasheet: https://datasheets.maximintegrated.com/en/ds/DG441-DG442.pdf
part A pins: 1, 2, 3
part B pins: 6, 7, 8
part C pins: 9, 10, 11
part D pins: 14, 15, 16
part E pins: 4 V-, 5 GND, 12 NC hidden, 13 V+

## DG441xY
designator *  value DG441xY  Reference: U
ki_keywords: CMOS Analog Switch; ki_description: Quad SPST Analog Switches, normally ON, 60Ohm Ron, SOIC-16; ki_fp_filters: SOIC*3.9x9.9mm*P1.27mm*; Footprint: Package_SO:SOIC-16_3.9x9.9mm_P1.27mm; Datasheet: https://datasheets.maximintegrated.com/en/ds/DG441-DG442.pdf
part A pins: 1, 2, 3
part B pins: 6, 7, 8
part C pins: 9, 10, 11
part D pins: 14, 15, 16
part E pins: 4 V-, 5 GND, 12 NC hidden, 13 V+

## DG442xJ
designator *  value DG442xJ  Reference: U
ki_keywords: CMOS Analog Switch; ki_description: Quad SPST Analog Switches, normally OFF, 60Ohm Ron, DIP-16; ki_fp_filters: DIP*W7.62mm*; Footprint: Package_DIP:DIP-16_W7.62mm; Datasheet: https://datasheets.maximintegrated.com/en/ds/DG441-DG442.pdf
part A pins: 1, 2, 3
part B pins: 6, 7, 8
part C pins: 9, 10, 11
part D pins: 14, 15, 16
part E pins: 4 V-, 5 GND, 12 NC hidden, 13 V+

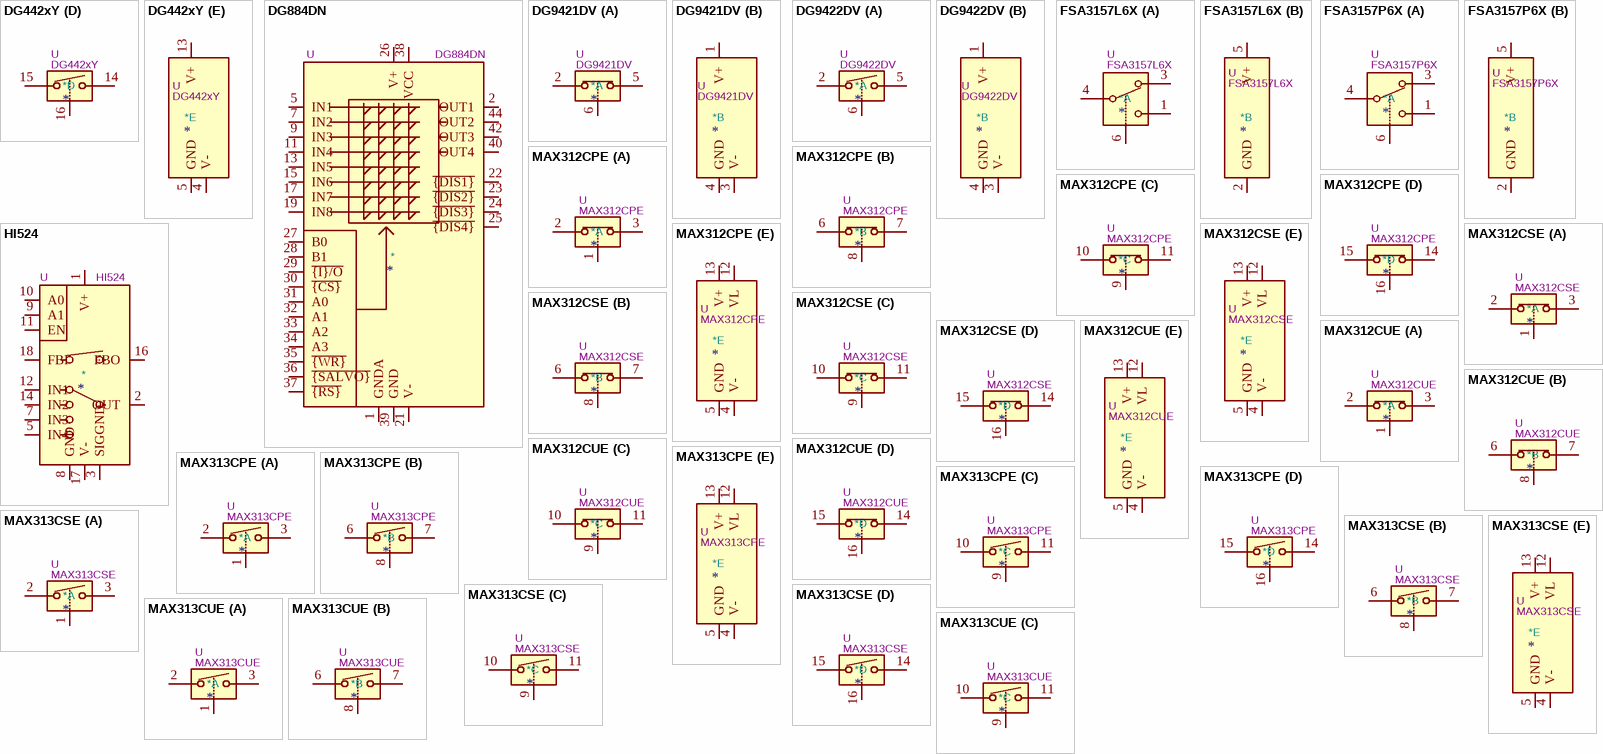
[diagram p5: symbols DG442xY to MAX313CUE]

## DG442xY
designator *  value DG442xY  Reference: U
ki_keywords: CMOS Analog Switch; ki_description: Quad SPST Analog Switches, normally OFF, 60Ohm Ron, SOIC-16; ki_fp_filters: SOIC*3.9x9.9mm*P1.27mm*; Footprint: Package_SO:SOIC-16_3.9x9.9mm_P1.27mm; Datasheet: https://datasheets.maximintegrated.com/en/ds/DG441-DG442.pdf
part A pins: 1, 2, 3
part B pins: 6, 7, 8
part C pins: 9, 10, 11
part D pins: 14, 15, 16
part E pins: 4 V-, 5 GND, 12 NC hidden, 13 V+

## DG884DN
designator *  value DG884DN  Reference: U
ki_keywords: CMOS Analog Switch Video Crosspoint; ki_description: 8 x 4 Wideband Video Crosspoint Array, 45Ohm Ron, PLCC-44; ki_fp_filters: PLCC?44*; Footprint: Package_LCC:PLCC-44; Datasheet: http://www.vishay.com/docs/70071/dg884.pdf
pins: 1 GNDA, 2 OUT1, 3 GNDA hidden, 4 GNDA hidden, 5 IN1, 6 GNDA hidden, 7 IN2, 8 GNDA hidden, 9 IN3, 10 GNDA hidden, 11 IN4, 12 GNDA hidden, 13 IN5, 14 GNDA hidden, 15 IN6, 16 GNDA hidden, 17 IN7, 18 GNDA hidden, 19 IN8, 20 GNDA hidden, 21 V-, 22 ~{{DIS1}}, 23 ~{{DIS2}}, 24 ~{{DIS3}}, 25 ~{{DIS4}}, 26 V+, 27 B0, 28 B1, 29 ~{{I}/O}, 30 ~{{CS}}, 31 A0, 32 A1, 33 A2, 34 A3, 35 ~{{WR}}, 36 ~{{SALVO}}, 37 ~{{RS}}, 38 VCC, 39 GND, 40 OUT4, 41 GNDA hidden, 42 OUT3, 43 GNDA hidden, 44 OUT2

## DG9421DV
designator *  value DG9421DV  Reference: U
ki_keywords: CMOS Analog Switch; ki_description: Single SPST Precision Low-Voltage, Low-Glitch CMOS Analog Switch, normally ON, 2Ohm Ron, TSOP-6; ki_fp_filters: TSOP*1.65x3.05mm*P0.95mm*; Footprint: Package_SO:TSOP-6_1.65x3.05mm_P0.95mm; Datasheet: https://www.vishay.com/docs/70679/dg9421.pdf
part A pins: 2, 5, 6
part B pins: 1 V+, 3 V-, 4 GND

## DG9422DV
designator *  value DG9422DV  Reference: U
ki_keywords: CMOS Analog Switch; ki_description: Single SPST Precision Low-Voltage, Low-Glitch CMOS Analog Switch, normally OFF, 2Ohm Ron, TSOP-6; ki_fp_filters: TSOP*1.65x3.05mm*P0.95mm*; Footprint: Package_SO:TSOP-6_1.65x3.05mm_P0.95mm; Datasheet: https://www.vishay.com/docs/70679/dg9421.pdf
part A pins: 2, 5, 6
part B pins: 1 V+, 3 V-, 4 GND

## FSA3157L6X
designator *  value FSA3157L6X  Reference: U
ki_keywords: CMOS Analog Switch; ki_description: Single SPDT Low-Voltage Analog Switch or 2:1 Multiplexer/De-Multiplexer Bus Switch, 10Ohm Ron, MicroPak-6; ki_fp_filters: Fairchild*MicroPak*1.0x1.45mm*P0.5mm*; Footprint: Package_SON:Fairchild_MicroPak-6_1.0x1.45mm_P0.5mm; Datasheet: https://www.onsemi.com/pub/Collateral/NC7SB3157-D.PDF
part A pins: 1, 3, 4, 6
part B pins: 2 GND, 5 V+

## FSA3157P6X
designator *  value FSA3157P6X  Reference: U
ki_keywords: CMOS Analog Switch; ki_description: Single SPDT Low-Voltage Analog Switch or 2:1 Multiplexer/De-Multiplexer Bus Switch, 10Ohm Ron, SC-70-6; ki_fp_filters: *SC?70*; Footprint: Package_TO_SOT_SMD:SOT-363_SC-70-6; Datasheet: https://www.onsemi.com/pub/Collateral/NC7SB3157-D.PDF
part A pins: 1, 3, 4, 6
part B pins: 2 GND, 5 V+

## HI524
designator *  value HI524  Reference: U
ki_keywords: Video Multiplexer analog switch; ki_description: 4-Channel Wideband and Video Multiplexer, DIP-18; ki_fp_filters: DIP*W7.62mm*; Footprint: Package_DIP:DIP-18_W7.62mm; Datasheet: https://www.intersil.com/content/dam/Intersil/documents/hi-5/hi-524.pdf
pins: 1 V+, 2 OUT, 3 SIGGND, 4 SIGGND hidden, 5 IN4, 6 SIGGND hidden, 7 IN3, 8 GND, 9 A1, 10 A0, 11 EN, 12 IN1, 13 SIGGND hidden, 14 IN2, 15 SIGGND hidden, 16 FBO, 17 V-, 18 FBI

## MAX312CPE
designator *  value MAX312CPE  Reference: U
ki_keywords: CMOS Analog Switch; ki_description: Quad SPST CMOS Analog Switches, normally ON, 6.5Ohm Ron, DIP-16; ki_fp_filters: DIP*W7.62mm*; Footprint: Package_DIP:DIP-16_W7.62mm; Datasheet: https://datasheets.maximintegrated.com/en/ds/MAX312-MAX314.pdf
part A pins: 1, 2, 3
part B pins: 6, 7, 8
part C pins: 9, 10, 11
part D pins: 14, 15, 16
part E pins: 4 V-, 5 GND, 12 VL, 13 V+

## MAX312CSE
designator *  value MAX312CSE  Reference: U
ki_keywords: CMOS Analog Switch; ki_description: Quad SPST CMOS Analog Switches, normally ON, 6.5Ohm Ron, SOIC-16; ki_fp_filters: SOIC*3.9x9.9mm*P1.27mm*; Footprint: Package_SO:SOIC-16_3.9x9.9mm_P1.27mm; Datasheet: https://datasheets.maximintegrated.com/en/ds/MAX312-MAX314.pdf
part A pins: 1, 2, 3
part B pins: 6, 7, 8
part C pins: 9, 10, 11
part D pins: 14, 15, 16
part E pins: 4 V-, 5 GND, 12 VL, 13 V+

## MAX312CUE
designator *  value MAX312CUE  Reference: U
ki_keywords: CMOS Analog Switch; ki_description: Quad SPST CMOS Analog Switches, normally ON, 6.5Ohm Ron, TSSOP-16; ki_fp_filters: TSSOP*4.4x5mm*P0.65mm*; Footprint: Package_SO:TSSOP-16_4.4x5mm_P0.65mm; Datasheet: https://datasheets.maximintegrated.com/en/ds/MAX312-MAX314.pdf
part A pins: 1, 2, 3
part B pins: 6, 7, 8
part C pins: 9, 10, 11
part D pins: 14, 15, 16
part E pins: 4 V-, 5 GND, 12 VL, 13 V+

## MAX313CPE
designator *  value MAX313CPE  Reference: U
ki_keywords: CMOS Analog Switch; ki_description: Quad SPST CMOS Analog Switches, normally OFF, 6.5Ohm Ron, DIP-16; ki_fp_filters: DIP*W7.62mm*; Footprint: Package_DIP:DIP-16_W7.62mm; Datasheet: https://datasheets.maximintegrated.com/en/ds/MAX312-MAX314.pdf
part A pins: 1, 2, 3
part B pins: 6, 7, 8
part C pins: 9, 10, 11
part D pins: 14, 15, 16
part E pins: 4 V-, 5 GND, 12 VL, 13 V+

## MAX313CSE
designator *  value MAX313CSE  Reference: U
ki_keywords: CMOS Analog Switch; ki_description: Quad SPST CMOS Analog Switches, normally OFF, 6.5Ohm Ron, SOIC-16; ki_fp_filters: SOIC*3.9x9.9mm*P1.27mm*; Footprint: Package_SO:SOIC-16_3.9x9.9mm_P1.27mm; Datasheet: https://datasheets.maximintegrated.com/en/ds/MAX312-MAX314.pdf
part A pins: 1, 2, 3
part B pins: 6, 7, 8
part C pins: 9, 10, 11
part D pins: 14, 15, 16
part E pins: 4 V-, 5 GND, 12 VL, 13 V+

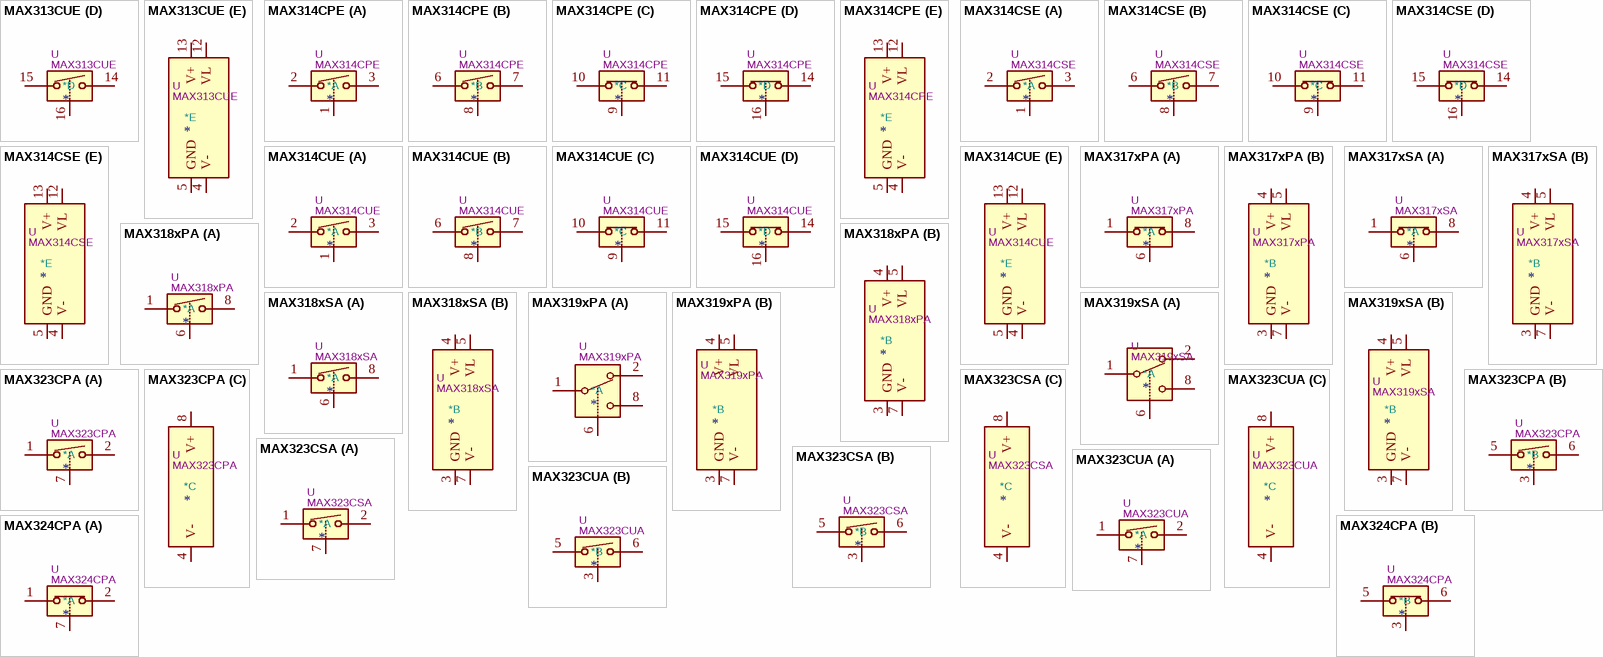
[diagram p6: symbols MAX313CUE to MAX324CPA]

## MAX313CUE
designator *  value MAX313CUE  Reference: U
ki_keywords: CMOS Analog Switch; ki_description: Quad SPST CMOS Analog Switches, normally OFF, 6.5Ohm Ron, TSSOP-16; ki_fp_filters: TSSOP*4.4x5mm*P0.65mm*; Footprint: Package_SO:TSSOP-16_4.4x5mm_P0.65mm; Datasheet: https://datasheets.maximintegrated.com/en/ds/MAX312-MAX314.pdf
part A pins: 1, 2, 3
part B pins: 6, 7, 8
part C pins: 9, 10, 11
part D pins: 14, 15, 16
part E pins: 4 V-, 5 GND, 12 VL, 13 V+

## MAX314CPE
designator *  value MAX314CPE  Reference: U
ki_keywords: CMOS Analog Switch; ki_description: Quad SPST CMOS Analog Switches, normally 2xON + 2xOFF, 6.5Ohm Ron, DIP-16; ki_fp_filters: DIP*W7.62mm*; Footprint: Package_DIP:DIP-16_W7.62mm; Datasheet: https://datasheets.maximintegrated.com/en/ds/MAX312-MAX314.pdf
part A pins: 1, 2, 3
part B pins: 6, 7, 8
part C pins: 9, 10, 11
part D pins: 14, 15, 16
part E pins: 4 V-, 5 GND, 12 VL, 13 V+

## MAX314CSE
designator *  value MAX314CSE  Reference: U
ki_keywords: CMOS Analog Switch; ki_description: Quad SPST CMOS Analog Switches, normally 2xON + 2xOFF, 6.5Ohm Ron, SOIC-16; ki_fp_filters: SOIC*3.9x9.9mm*P1.27mm*; Footprint: Package_SO:SOIC-16_3.9x9.9mm_P1.27mm; Datasheet: https://datasheets.maximintegrated.com/en/ds/MAX312-MAX314.pdf
part A pins: 1, 2, 3
part B pins: 6, 7, 8
part C pins: 9, 10, 11
part D pins: 14, 15, 16
part E pins: 4 V-, 5 GND, 12 VL, 13 V+

## MAX314CUE
designator *  value MAX314CUE  Reference: U
ki_keywords: CMOS Analog Switch; ki_description: Quad SPST CMOS Analog Switches, normally 2xON + 2xOFF, 6.5Ohm Ron, TSSOP-16; ki_fp_filters: TSSOP*4.4x5mm*P0.65mm*; Footprint: Package_SO:TSSOP-16_4.4x5mm_P0.65mm; Datasheet: https://datasheets.maximintegrated.com/en/ds/MAX312-MAX314.pdf
part A pins: 1, 2, 3
part B pins: 6, 7, 8
part C pins: 9, 10, 11
part D pins: 14, 15, 16
part E pins: 4 V-, 5 GND, 12 VL, 13 V+

## MAX317xPA
designator *  value MAX317xPA  Reference: U
ki_keywords: CMOS Analog Switch; ki_description: Single SPST Monolithic CMOS Analog Switch, normally ON, 20Ohm Ron, DIP-8; ki_fp_filters: DIP*W7.62mm*; Footprint: Package_DIP:DIP-8_W7.62mm; Datasheet: https://datasheets.maximintegrated.com/en/ds/MAX317-MAX319.pdf
part A pins: 1, 6, 8
part B pins: 2 NC hidden, 3 GND, 4 V+, 5 VL, 7 V-

## MAX317xSA
designator *  value MAX317xSA  Reference: U
ki_keywords: CMOS Analog Switch; ki_description: Single SPST Monolithic CMOS Analog Switch, normally ON, 20Ohm Ron, SOIC-8; ki_fp_filters: SOIC*3.9x4.9mm*P1.27mm*; Footprint: Package_SO:SOIC-8_3.9x4.9mm_P1.27mm; Datasheet: https://datasheets.maximintegrated.com/en/ds/MAX317-MAX319.pdf
part A pins: 1, 6, 8
part B pins: 2 NC hidden, 3 GND, 4 V+, 5 VL, 7 V-

## MAX318xPA
designator *  value MAX318xPA  Reference: U
ki_keywords: CMOS Analog Switch; ki_description: Single SPST Monolithic CMOS Analog Switch, normally OFF, 20Ohm Ron, DIP-8; ki_fp_filters: DIP*W7.62mm*; Footprint: Package_DIP:DIP-8_W7.62mm; Datasheet: https://datasheets.maximintegrated.com/en/ds/MAX317-MAX319.pdf
part A pins: 1, 6, 8
part B pins: 2 NC hidden, 3 GND, 4 V+, 5 VL, 7 V-

## MAX318xSA
designator *  value MAX318xSA  Reference: U
ki_keywords: CMOS Analog Switch; ki_description: Single SPST Monolithic CMOS Analog Switch, normally OFF, 20Ohm Ron, SOIC-8; ki_fp_filters: SOIC*3.9x4.9mm*P1.27mm*; Footprint: Package_SO:SOIC-8_3.9x4.9mm_P1.27mm; Datasheet: https://datasheets.maximintegrated.com/en/ds/MAX317-MAX319.pdf
part A pins: 1, 6, 8
part B pins: 2 NC hidden, 3 GND, 4 V+, 5 VL, 7 V-

## MAX319xPA
designator *  value MAX319xPA  Reference: U
ki_keywords: CMOS Analog Switch; ki_description: Single SPDT Monolithic CMOS Analog Switch, 20Ohm Ron, DIP-8; ki_fp_filters: DIP*W7.62mm*; Footprint: Package_DIP:DIP-8_W7.62mm; Datasheet: https://datasheets.maximintegrated.com/en/ds/MAX317-MAX319.pdf
part A pins: 1, 2, 6, 8
part B pins: 3 GND, 4 V+, 5 VL, 7 V-

## MAX319xSA
designator *  value MAX319xSA  Reference: U
ki_keywords: CMOS Analog Switch; ki_description: Single SPDT Monolithic CMOS Analog Switch, 20Ohm Ron, SOIC-8; ki_fp_filters: SOIC*3.9x4.9mm*P1.27mm*; Footprint: Package_SO:SOIC-8_3.9x4.9mm_P1.27mm; Datasheet: https://datasheets.maximintegrated.com/en/ds/MAX317-MAX319.pdf
part A pins: 1, 2, 6, 8
part B pins: 3 GND, 4 V+, 5 VL, 7 V-

## MAX323CPA
designator *  value MAX323CPA  Reference: U
ki_keywords: CMOS Analog Switch; ki_description: Dual SPST CMOS Analog Switches, normally OFF, 60Ohm Ron, DIP-8; ki_fp_filters: DIP*W7.62mm*; Footprint: Package_DIP:DIP-8_W7.62mm; Datasheet: https://datasheets.maximintegrated.com/en/ds/MAX323-MAX325.pdf
part A pins: 1, 2, 7
part B pins: 3, 5, 6
part C pins: 4 V-, 8 V+

## MAX323CSA
designator *  value MAX323CSA  Reference: U
ki_keywords: CMOS Analog Switch; ki_description: Dual SPST CMOS Analog Switches, normally OFF, 60Ohm Ron, SOIC-8; ki_fp_filters: SOIC*3.9x4.9mm*P1.27mm*; Footprint: Package_SO:SOIC-8_3.9x4.9mm_P1.27mm; Datasheet: https://datasheets.maximintegrated.com/en/ds/MAX323-MAX325.pdf
part A pins: 1, 2, 7
part B pins: 3, 5, 6
part C pins: 4 V-, 8 V+

## MAX323CUA
designator *  value MAX323CUA  Reference: U
ki_keywords: CMOS Analog Switch; ki_description: Dual SPST CMOS Analog Switches, normally OFF, 60Ohm Ron, MSOP-8; ki_fp_filters: MSOP*3x3mm*P0.65mm*; Footprint: Package_SO:MSOP-8_3x3mm_P0.65mm; Datasheet: https://datasheets.maximintegrated.com/en/ds/MAX323-MAX325.pdf
part A pins: 1, 2, 7
part B pins: 3, 5, 6
part C pins: 4 V-, 8 V+

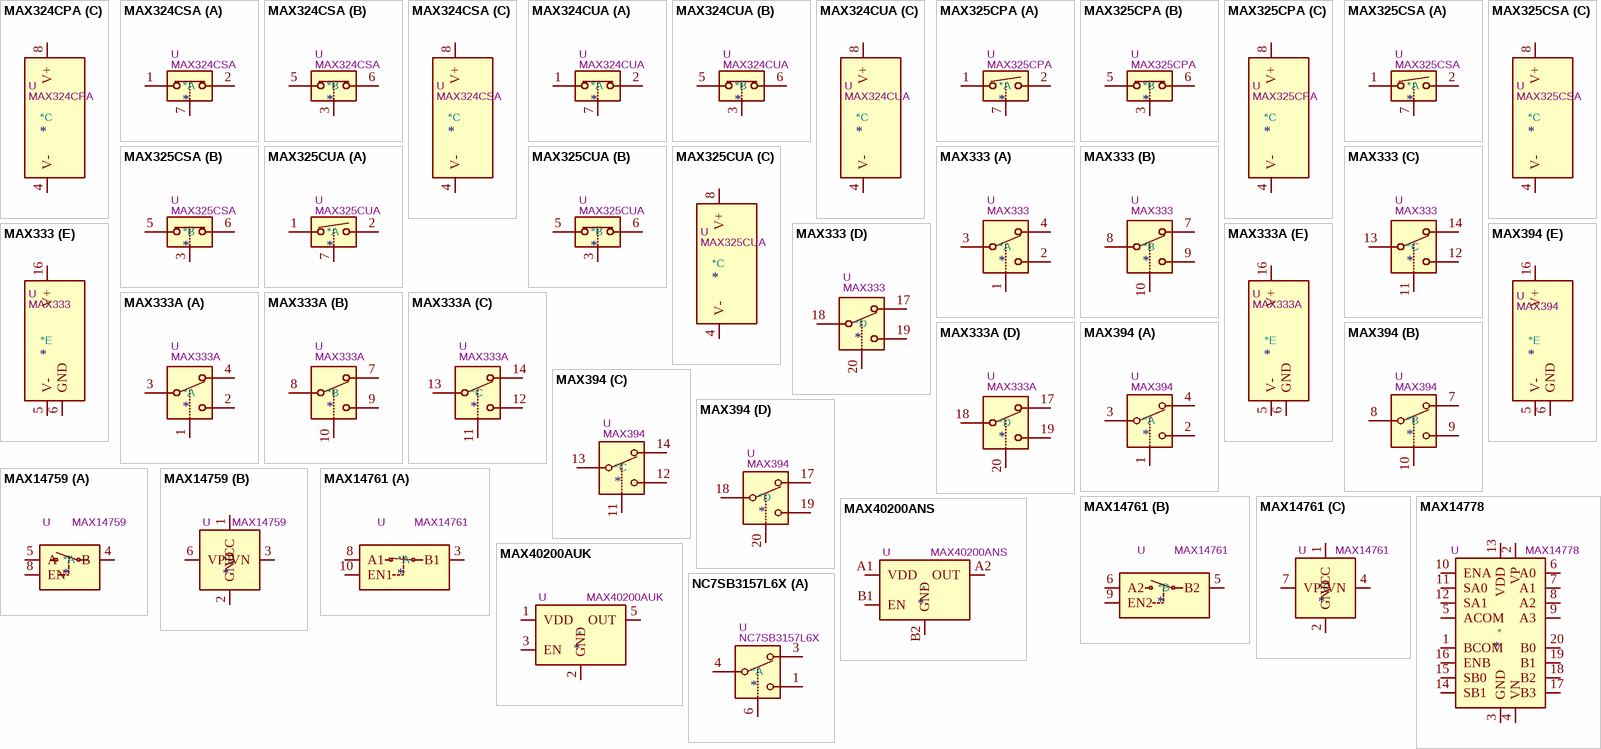
[diagram p7: symbols MAX324CPA to NC7SB3157L6X]

## MAX324CPA
designator *  value MAX324CPA  Reference: U
ki_keywords: CMOS Analog Switch; ki_description: Dual SPST CMOS Analog Switches, normally ON, 60Ohm Ron, DIP-8; ki_fp_filters: DIP*W7.62mm*; Footprint: Package_DIP:DIP-8_W7.62mm; Datasheet: https://datasheets.maximintegrated.com/en/ds/MAX323-MAX325.pdf
part A pins: 1, 2, 7
part B pins: 3, 5, 6
part C pins: 4 V-, 8 V+

## MAX324CSA
designator *  value MAX324CSA  Reference: U
ki_keywords: CMOS Analog Switch; ki_description: Dual SPST CMOS Analog Switches, normally ON, 60Ohm Ron, SOIC-8; ki_fp_filters: SOIC*3.9x4.9mm*P1.27mm*; Footprint: Package_SO:SOIC-8_3.9x4.9mm_P1.27mm; Datasheet: https://datasheets.maximintegrated.com/en/ds/MAX323-MAX325.pdf
part A pins: 1, 2, 7
part B pins: 3, 5, 6
part C pins: 4 V-, 8 V+

## MAX324CUA
designator *  value MAX324CUA  Reference: U
ki_keywords: CMOS Analog Switch; ki_description: Dual SPST CMOS Analog Switches, normally ON, 60Ohm Ron, MSOP-8; ki_fp_filters: MSOP*3x3mm*P0.65mm*; Footprint: Package_SO:MSOP-8_3x3mm_P0.65mm; Datasheet: https://datasheets.maximintegrated.com/en/ds/MAX323-MAX325.pdf
part A pins: 1, 2, 7
part B pins: 3, 5, 6
part C pins: 4 V-, 8 V+

## MAX325CPA
designator *  value MAX325CPA  Reference: U
ki_keywords: CMOS Analog Switch; ki_description: Dual SPST CMOS Analog Switches, normally 1xOFF and 1xON, 60Ohm Ron, DIP-8; ki_fp_filters: DIP*W7.62mm*; Footprint: Package_DIP:DIP-8_W7.62mm; Datasheet: https://datasheets.maximintegrated.com/en/ds/MAX323-MAX325.pdf
part A pins: 1, 2, 7
part B pins: 3, 5, 6
part C pins: 4 V-, 8 V+

## MAX325CSA
designator *  value MAX325CSA  Reference: U
ki_keywords: CMOS Analog Switch; ki_description: Dual SPST CMOS Analog Switches, normally 1xOFF and 1xON, 60Ohm Ron, SOIC-8; ki_fp_filters: SOIC*3.9x4.9mm*P1.27mm*; Footprint: Package_SO:SOIC-8_3.9x4.9mm_P1.27mm; Datasheet: https://datasheets.maximintegrated.com/en/ds/MAX323-MAX325.pdf
part A pins: 1, 2, 7
part B pins: 3, 5, 6
part C pins: 4 V-, 8 V+

## MAX325CUA
designator *  value MAX325CUA  Reference: U
ki_keywords: CMOS Analog Switch; ki_description: Dual SPST CMOS Analog Switches, normally 1xOFF and 1xON, 60Ohm Ron, MSOP-8; ki_fp_filters: MSOP*3x3mm*P0.65mm*; Footprint: Package_SO:MSOP-8_3x3mm_P0.65mm; Datasheet: https://datasheets.maximintegrated.com/en/ds/MAX323-MAX325.pdf
part A pins: 1, 2, 7
part B pins: 3, 5, 6
part C pins: 4 V-, 8 V+

## MAX333
designator *  value MAX333  Reference: U
ki_keywords: CMOS Analog Switch; ki_description: Quad SPDT CMOS Analog Switch, DIP-20/SOIC-20/SSOP-20; ki_fp_filters: SSOP*5.3x7.2mm*P0.65mm* SOIC*7.5x10.3mm*P1.27mm* DIP*W7.62mm*; Datasheet: https://datasheets.maximintegrated.com/en/ds/MAX333.pdf
part A pins: 1, 2, 3, 4
part B pins: 7, 8, 9, 10
part C pins: 11, 12, 13, 14
part D pins: 17, 18, 19, 20
part E pins: 5 V-, 6 GND, 15 NC hidden, 16 V+

## MAX333A
designator *  value MAX333A  Reference: U
ki_keywords: CMOS Analog Switch; ki_description: Quad SPDT CMOS Analog Switch, 17Ohm Ron, DIP-20/SOIC-20/SSOP-20/TSSOP-20; ki_fp_filters: TSSOP*4.4x6.5mm*P0.65mm* SSOP*5.3x7.2mm*P0.65mm* SOIC*7.5x10.3mm*P1.27mm* DIP*W7.62mm* SOIC*7.5x12.8mm*P1.27mm*; Datasheet: https://datasheets.maximintegrated.com/en/ds/MAX333A.pdf
part A pins: 1, 2, 3, 4
part B pins: 7, 8, 9, 10
part C pins: 11, 12, 13, 14
part D pins: 17, 18, 19, 20
part E pins: 5 V-, 6 GND, 15 NC hidden, 16 V+

## MAX394
designator *  value MAX394  Reference: U
ki_keywords: CMOS Analog Switch; ki_description: Quad SPDT CMOS Analog Switch, 35Ohm Ron, DIP-20/SOIC-20/SSOP-20/TSSOP-20; ki_fp_filters: TSSOP*4.4x6.5mm*P0.65mm* SSOP*5.3x7.2mm*P0.65mm* SOIC*7.5x10.3mm*P1.27mm* DIP*W7.62mm* SOIC*7.5x12.8mm*P1.27mm*; Datasheet: https://datasheets.maximintegrated.com/en/ds/MAX394.pdf
part A pins: 1, 2, 3, 4
part B pins: 7, 8, 9, 10
part C pins: 11, 12, 13, 14
part D pins: 17, 18, 19, 20
part E pins: 5 V-, 6 GND, 15 NC hidden, 16 V+

## MAX14759
designator *  value MAX14759  Reference: U
ki_keywords: analog switch low resistance above below rails; ki_description: Above- and Below-the-Rails Low On-Resistance Analog Switches, max 2 Ohms On-Resistance, TDFN-8; ki_fp_filters: DFN*3x3mm*P0.65mm*; Footprint: Package_DFN_QFN:DFN-8-1EP_3x3mm_P0.65mm_EP1.55x2.4mm; Datasheet: https://datasheets.maximintegrated.com/en/ds/MAX14759-MAX14763.pdf
part A pins: 4 B, 5 A, 8 EN
part B pins: 1 VCC, 2 GND, 3 VN, 6 VP, 7 NC hidden, 9 VN hidden

## MAX14761
designator *  value MAX14761  Reference: U
ki_keywords: analog switch low resistance above below rails; ki_description: Above- and Below-the-Rails Low On-Resistance Analog Switches, max 2 Ohm On resistor, TDFN-10; ki_fp_filters: DFN*3x3mm*P0.5mm*; Footprint: Package_DFN_QFN:DFN-10-1EP_3x3mm_P0.5mm_EP1.55x2.48mm; Datasheet: https://datasheets.maximintegrated.com/en/ds/MAX14759-MAX14763.pdf
part A pins: 3 B1, 8 A1, 10 EN1
part B pins: 5 B2, 6 A2, 9 EN2
part C pins: 1 VCC, 2 GND, 4 VN, 7 VP, 11 VN hidden